# Altium schematic symbol library VC099_V13_20211125_Library.SchLib: 284 symbols (part 1 of 28)
Pins are listed as number, name and electrical type; pins without a type are passive.

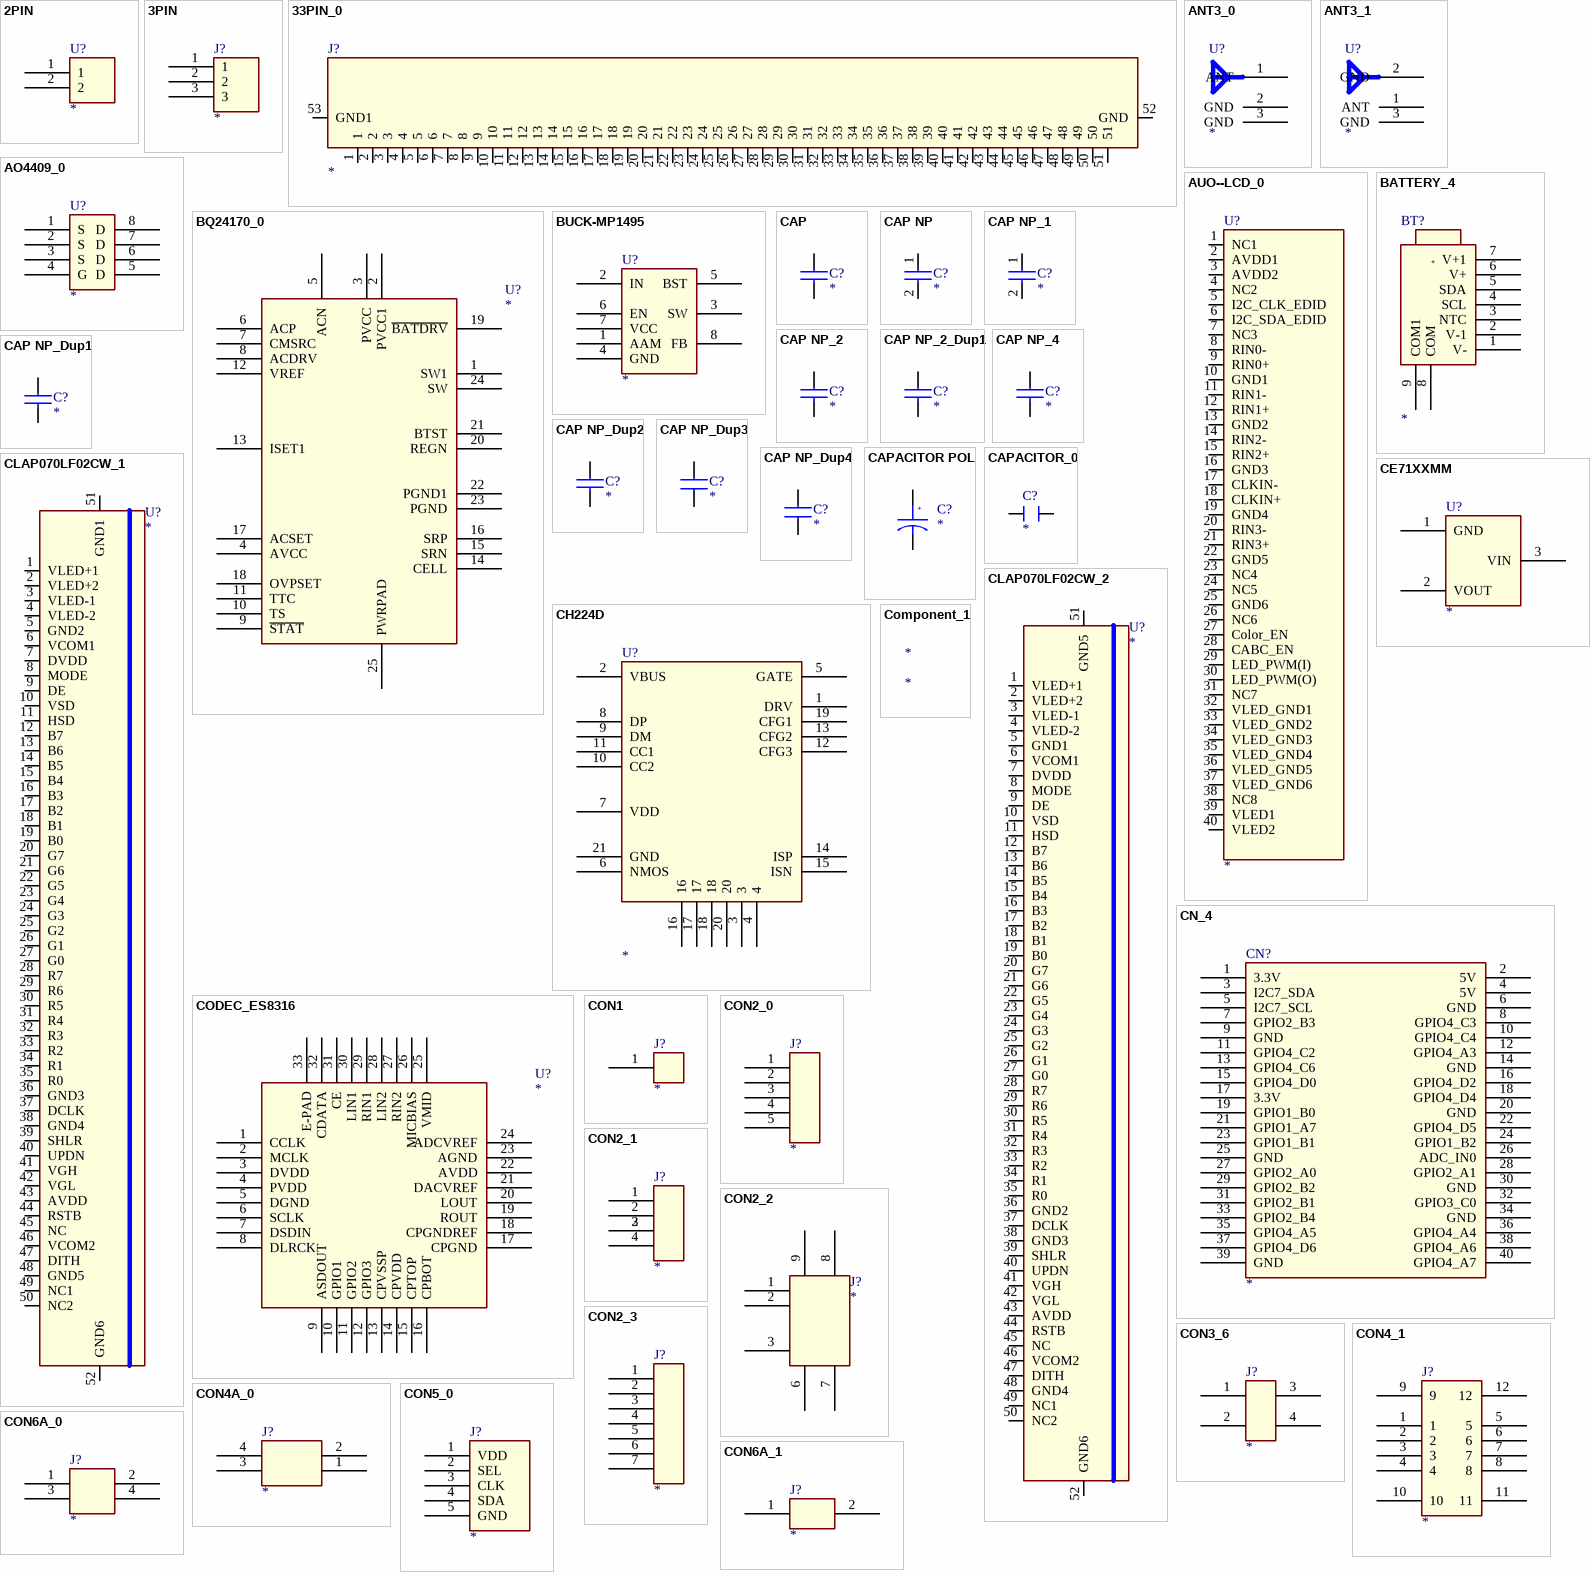
[diagram p0: symbols 2PIN to CON6A_1]

## 2PIN
designator U?
footprint 2PIN_2_54
pins: 1, 2

## 3PIN
designator J?
footprint 3PIN
pins: 1, 2, 3

## 33PIN_0
designator J?
footprint 33PIN
pins: 1, 2, 3, 4, 5, 6, 7, 8, 9, 10, 11, 12, 13, 14, 15, 16, 17, 18, 19, 20, 21, 22, 23, 24, 25, 26, 27, 28, 29, 30, 31, 32, 33, 34, 35, 36, 37, 38, 39, 40, 41, 42, 43, 44, 45, 46, 47, 48, 49, 50, 51, 52 GND, 53 GND1

## ANT3_0
designator U?
pins: 1 ANT, 2 GND, 3 GND

## ANT3_1
designator U?
pins: 1 ANT, 2 GND, 3 GND

## AO4409_0
designator U?
pins: 1 S, 2 S, 3 S, 4 G, 5 D, 6 D, 7 D, 8 D

## AUO--LCD_0
designator U?
pins: 1 NC1, 2 AVDD1, 3 AVDD2, 4 NC2, 5 I2C_CLK_EDID, 6 I2C_SDA_EDID, 7 NC3, 8 RIN0-, 9 RIN0+, 10 GND1, 11 RIN1-, 12 RIN1+, 13 GND2, 14 RIN2-, 15 RIN2+, 16 GND3, 17 CLKIN-, 18 CLKIN+, 19 GND4, 20 RIN3-, 21 RIN3+, 22 GND5, 23 NC4, 24 NC5, 25 GND6, 26 NC6, 27 Color_EN, 28 CABC_EN, 29 LED_PWM(I), 30 LED_PWM(O), 31 NC7, 32 VLED_GND1, 33 VLED_GND2, 34 VLED_GND3, 35 VLED_GND4, 36 VLED_GND5, 37 VLED_GND6, 38 NC8, 39 VLED1, 40 VLED2

## BATTERY_4
designator BT?
pins: 1 V- (power), 2 V-1 (power), 3 NTC, 4 SCL, 5 SDA, 6 V+ (power), 7 V+1 (power), 8 COM, 9 COM1
text: +; -

## BQ24170_0
designator U?
footprint BQ24170
pins: 1 SW1, 2 PVCC1, 3 PVCC, 4 AVCC, 5 ACN, 6 ACP, 7 CMSRC, 8 ACDRV, 9 ~{STAT}, 10 TS, 11 TTC, 12 VREF, 13 ISET1, 14 CELL, 15 SRN, 16 SRP, 17 ACSET, 18 OVPSET, 19 ~{BATDRV}, 20 REGN, 21 BTST, 22 PGND1, 23 PGND, 24 SW, 25 PWRPAD

## BUCK-MP1495
designator U?
footprint TSOT_23_8
pins: 1 AAM, 2 IN, 3 SW, 4 GND, 5 BST, 6 EN, 7 VCC, 8 FB

## CAP
designator C?
pins: 1, 2

## CAP NP
designator C?
pins: 1, 2

## CAP NP_1
designator C?
pins: 1, 2

## CAP NP_2
designator C?
pins: 1, 2

## CAP NP_2_Dup1
designator C?
pins: 1, 2

## CAP NP_4
designator C?
pins: 1, 2

## CAP NP_Dup1
designator C?
footprint C0402
pins: 1, 2

## CAP NP_Dup2
designator C?
pins: 1, 2

## CAP NP_Dup3
designator C?
footprint C0603
pins: 1, 2

## CAP NP_Dup4
designator C?
footprint C0603
pins: 1, 2

## CAPACITOR POL
designator C?
pins: 1, 2
text: +

## CAPACITOR_0
designator C?
pins: 1, 2

## CE71XXMM
designator U?
pins: 1 GND, 2 VOUT, 3 VIN

## CH224D
designator U?
footprint CH224D
pins: 1 DRV, 2 VBUS, 3, 4, 5 GATE, 6 NMOS, 7 VDD, 8 DP, 9 DM, 10 CC2, 11 CC1, 12 CFG3, 13 CFG2, 14 ISP, 15 ISN, 16, 17, 18, 19 CFG1, 20, 21 GND

## CLAP070LF02CW_1
designator U?
pins: 1 VLED+1, 2 VLED+2, 3 VLED-1, 4 VLED-2, 5 GND2, 6 VCOM1, 7 DVDD, 8 MODE, 9 DE, 10 VSD, 11 HSD, 12 B7, 13 B6, 14 B5, 15 B4, 16 B3, 17 B2, 18 B1, 19 B0, 20 G7, 21 G6, 22 G5, 23 G4, 24 G3, 25 G2, 26 G1, 27 G0, 28 R7, 29 R6, 30 R5, 31 R4, 32 R3, 33 R2, 34 R1, 35 R0, 36 GND3, 37 DCLK, 38 GND4, 39 SHLR, 40 UPDN, 41 VGH, 42 VGL, 43 AVDD, 44 RSTB, 45 NC, 46 VCOM2, 47 DITH, 48 GND5, 49 NC1, 50 NC2, 51 GND1, 52 GND6

## CLAP070LF02CW_2
designator U?
pins: 1 VLED+1, 2 VLED+2, 3 VLED-1, 4 VLED-2, 5 GND1, 6 VCOM1, 7 DVDD, 8 MODE, 9 DE, 10 VSD, 11 HSD, 12 B7, 13 B6, 14 B5, 15 B4, 16 B3, 17 B2, 18 B1, 19 B0, 20 G7, 21 G6, 22 G5, 23 G4, 24 G3, 25 G2, 26 G1, 27 G0, 28 R7, 29 R6, 30 R5, 31 R4, 32 R3, 33 R2, 34 R1, 35 R0, 36 GND2, 37 DCLK, 38 GND3, 39 SHLR, 40 UPDN, 41 VGH, 42 VGL, 43 AVDD, 44 RSTB, 45 NC, 46 VCOM2, 47 DITH, 48 GND4, 49 NC1, 50 NC2, 51 GND5, 52 GND6

## CN_4
designator CN?
pins: 1 3.3V, 2 5V, 3 I2C7_SDA, 4 5V, 5 I2C7_SCL, 6 GND, 7 GPIO2_B3, 8 GPIO4_C3, 9 GND, 10 GPIO4_C4, 11 GPIO4_C2, 12 GPIO4_A3, 13 GPIO4_C6, 14 GND, 15 GPIO4_D0, 16 GPIO4_D2, 17 3.3V, 18 GPIO4_D4, 19 GPIO1_B0, 20 GND, 21 GPIO1_A7, 22 GPIO4_D5, 23 GPIO1_B1, 24 GPIO1_B2, 25 GND, 26 ADC_IN0, 27 GPIO2_A0, 28 GPIO2_A1, 29 GPIO2_B2, 30 GND, 31 GPIO2_B1, 32 GPIO3_C0, 33 GPIO2_B4, 34 GND, 35 GPIO4_A5, 36 GPIO4_A4, 37 GPIO4_D6, 38 GPIO4_A6, 39 GND, 40 GPIO4_A7

## CODEC_ES8316
designator U?
pins: 1 CCLK, 2 MCLK, 3 DVDD, 4 PVDD, 5 DGND, 6 SCLK, 7 DSDIN, 8 DLRCK, 9 ASDOUT, 10 GPIO1, 11 GPIO2, 12 GPIO3, 13 CPVSSP, 14 CPVDD, 15 CPTOP, 16 CPBOT, 17 CPGND, 18 CPGNDREF, 19 ROUT, 20 LOUT, 21 DACVREF, 22 AVDD, 23 AGND, 24 ADCVREF, 25 VMID, 26 MICBIAS, 27 RIN2, 28 LIN2, 29 RIN1, 30 LIN1, 31 CE, 32 CDATA, 33 E-PAD

## Component_1
designator *

## CON1
designator J?
pins: 1

## CON2_0
designator J?
pins: 1, 2, 3, 4, 5

## CON2_1
designator J?
pins: 1, 2, 2, 3, 4

## CON2_2
designator J?
pins: 1, 2, 3, 6, 7, 8, 9

## CON2_3
designator J?
pins: 1, 2, 3, 4, 5, 6, 7

## CON3_6
designator J?
pins: 1, 2, 3, 4

## CON4_1
designator J?
pins: 1, 2, 3, 4, 5, 6, 7, 8, 9, 10, 11, 12

## CON4A_0
designator J?
pins: 1, 2, 3, 4

## CON5_0
designator J?
pins: 1 VDD, 2 SEL, 3 CLK, 4 SDA, 5 GND

## CON6A_0
designator J?
pins: 1, 2, 3, 4

## CON6A_1
designator J?
pins: 1, 2

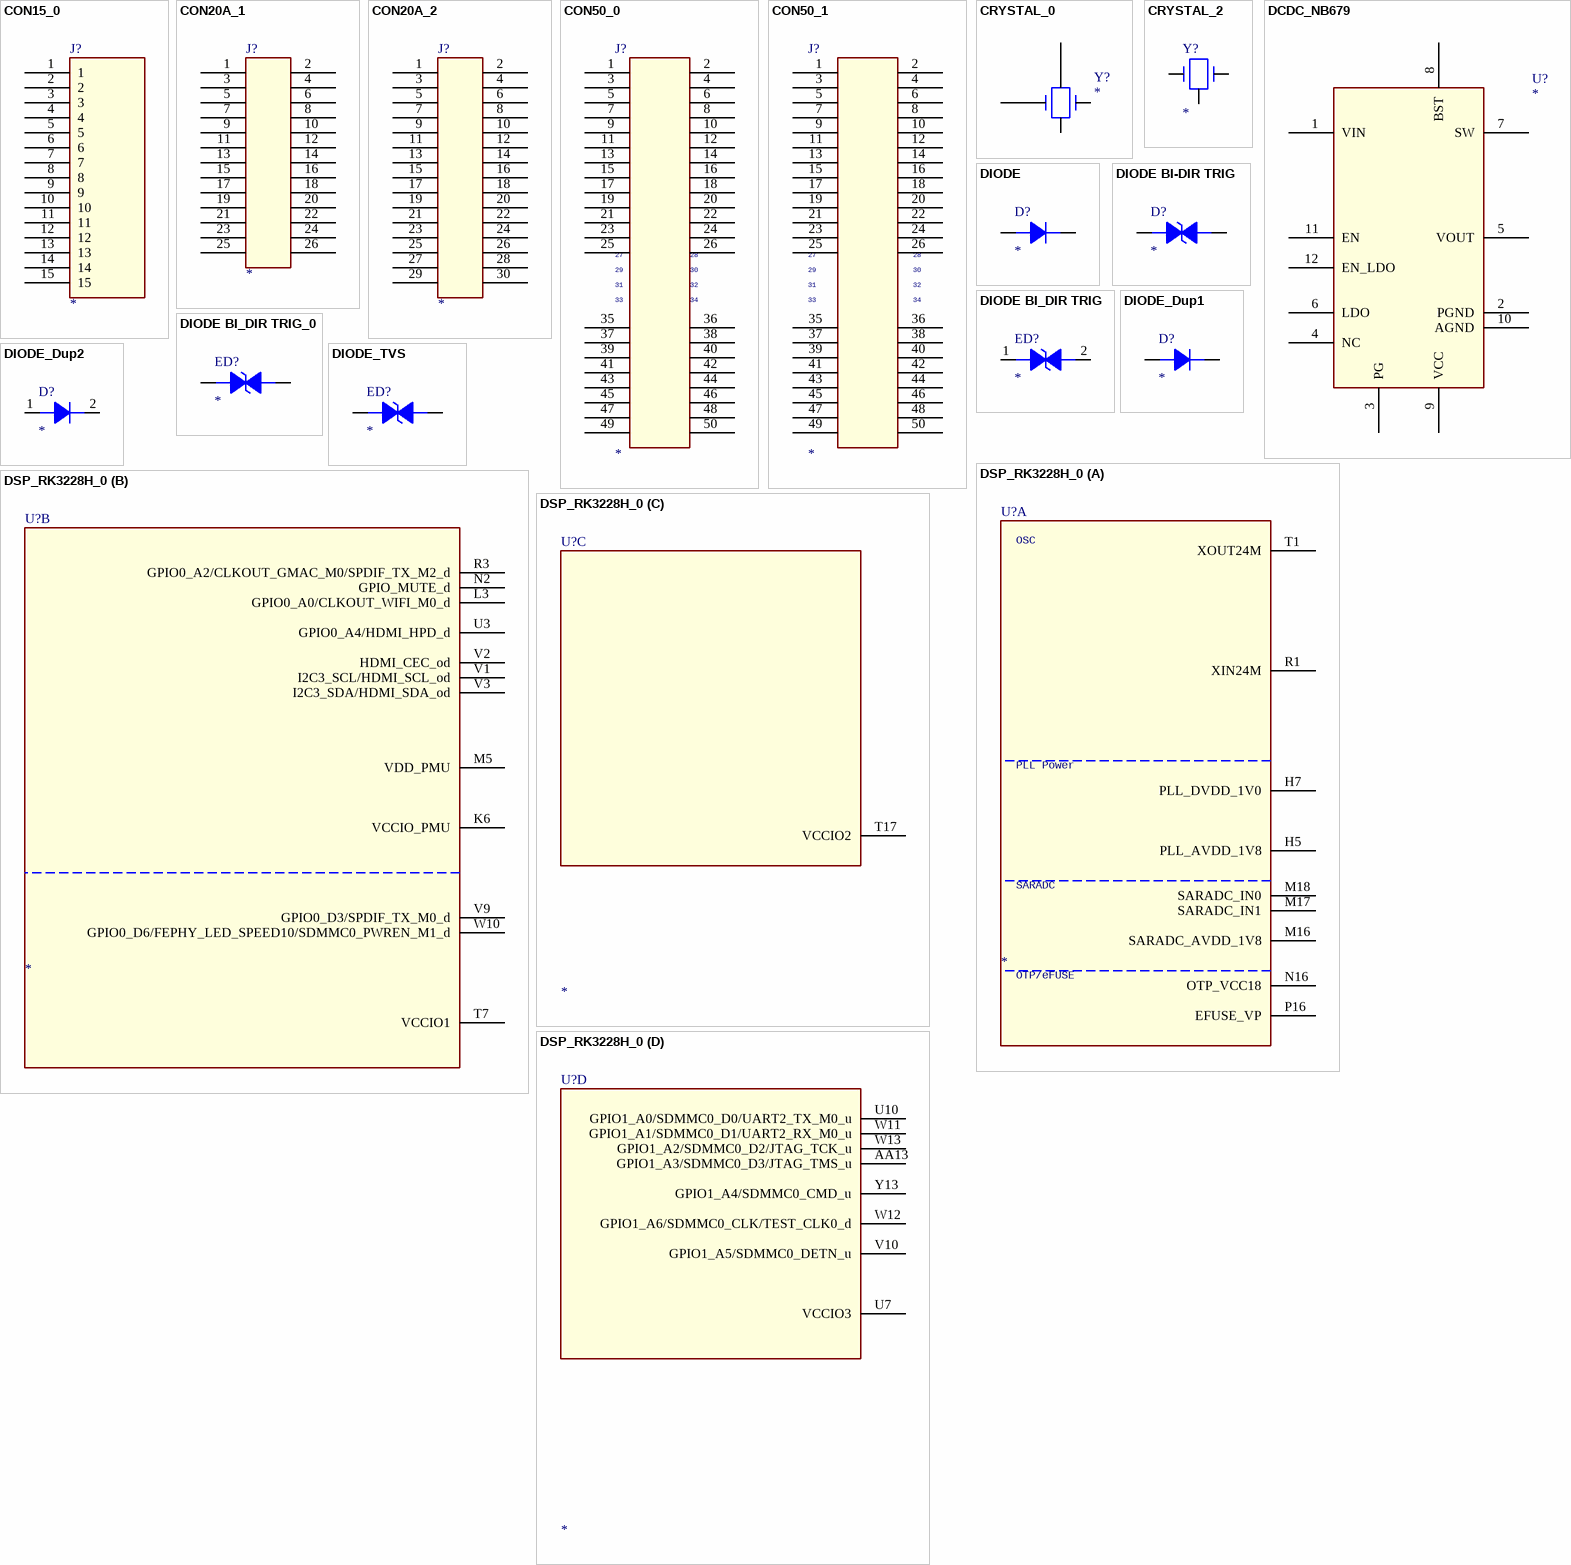
[diagram p1: symbols CON15_0 to DSP_RK3228H_0]

## CON15_0
designator J?
pins: 1, 2, 3, 4, 5, 6, 7, 8, 9, 10, 11, 12, 13, 14, 15

## CON20A_1
designator J?
pins: 1, 2, 3, 4, 5, 6, 7, 8, 9, 10, 11, 12, 13, 14, 15, 16, 17, 18, 19, 20, 21, 22, 23, 24, 25, 26

## CON20A_2
designator J?
pins: 1, 2, 3, 4, 5, 6, 7, 8, 9, 10, 11, 12, 13, 14, 15, 16, 17, 18, 19, 20, 21, 22, 23, 24, 25, 26, 27, 28, 29, 30

## CON50_0
designator J?
pins: 1, 2, 3, 4, 5, 6, 7, 8, 9, 10, 11, 12, 13, 14, 15, 16, 17, 18, 19, 20, 21, 22, 23, 24, 25, 26, 35, 36, 37, 38, 39, 40, 41, 42, 43, 44, 45, 46, 47, 48, 49, 50
text: 27; 28; 29; 30; 31; 32; 33; 34

## CON50_1
designator J?
pins: 1, 2, 3, 4, 5, 6, 7, 8, 9, 10, 11, 12, 13, 14, 15, 16, 17, 18, 19, 20, 21, 22, 23, 24, 25, 26, 35, 36, 37, 38, 39, 40, 41, 42, 43, 44, 45, 46, 47, 48, 49, 50
text: 27; 28; 29; 30; 31; 32; 33; 34

## CRYSTAL_0
designator Y?
pins: 1, 2, 3, 4

## CRYSTAL_2
designator Y?
pins: 1, 2, 3, 4

## DCDC_NB679
designator U?
footprint QFN12_3R00X2R00X0R90
pins: 1 VIN, 2 PGND, 3 PG, 4 NC, 5 VOUT, 6 LDO, 7 SW, 8 BST, 9 VCC, 10 AGND, 11 EN, 12 EN_LDO

## DIODE
designator D?
pins: 1 A, 2 K

## DIODE BI-DIR TRIG
designator D?
pins: 1, 2

## DIODE BI_DIR TRIG
designator ED?
pins: 1, 2

## DIODE BI_DIR TRIG_0
designator ED?
pins: 1, 2

## DIODE_Dup1
designator D?
pins: 1 A, 2 K

## DIODE_Dup2
designator D?
pins: 1 A, 2 K

## DIODE_TVS
designator ED?
footprint E0402
pins: 1, 2

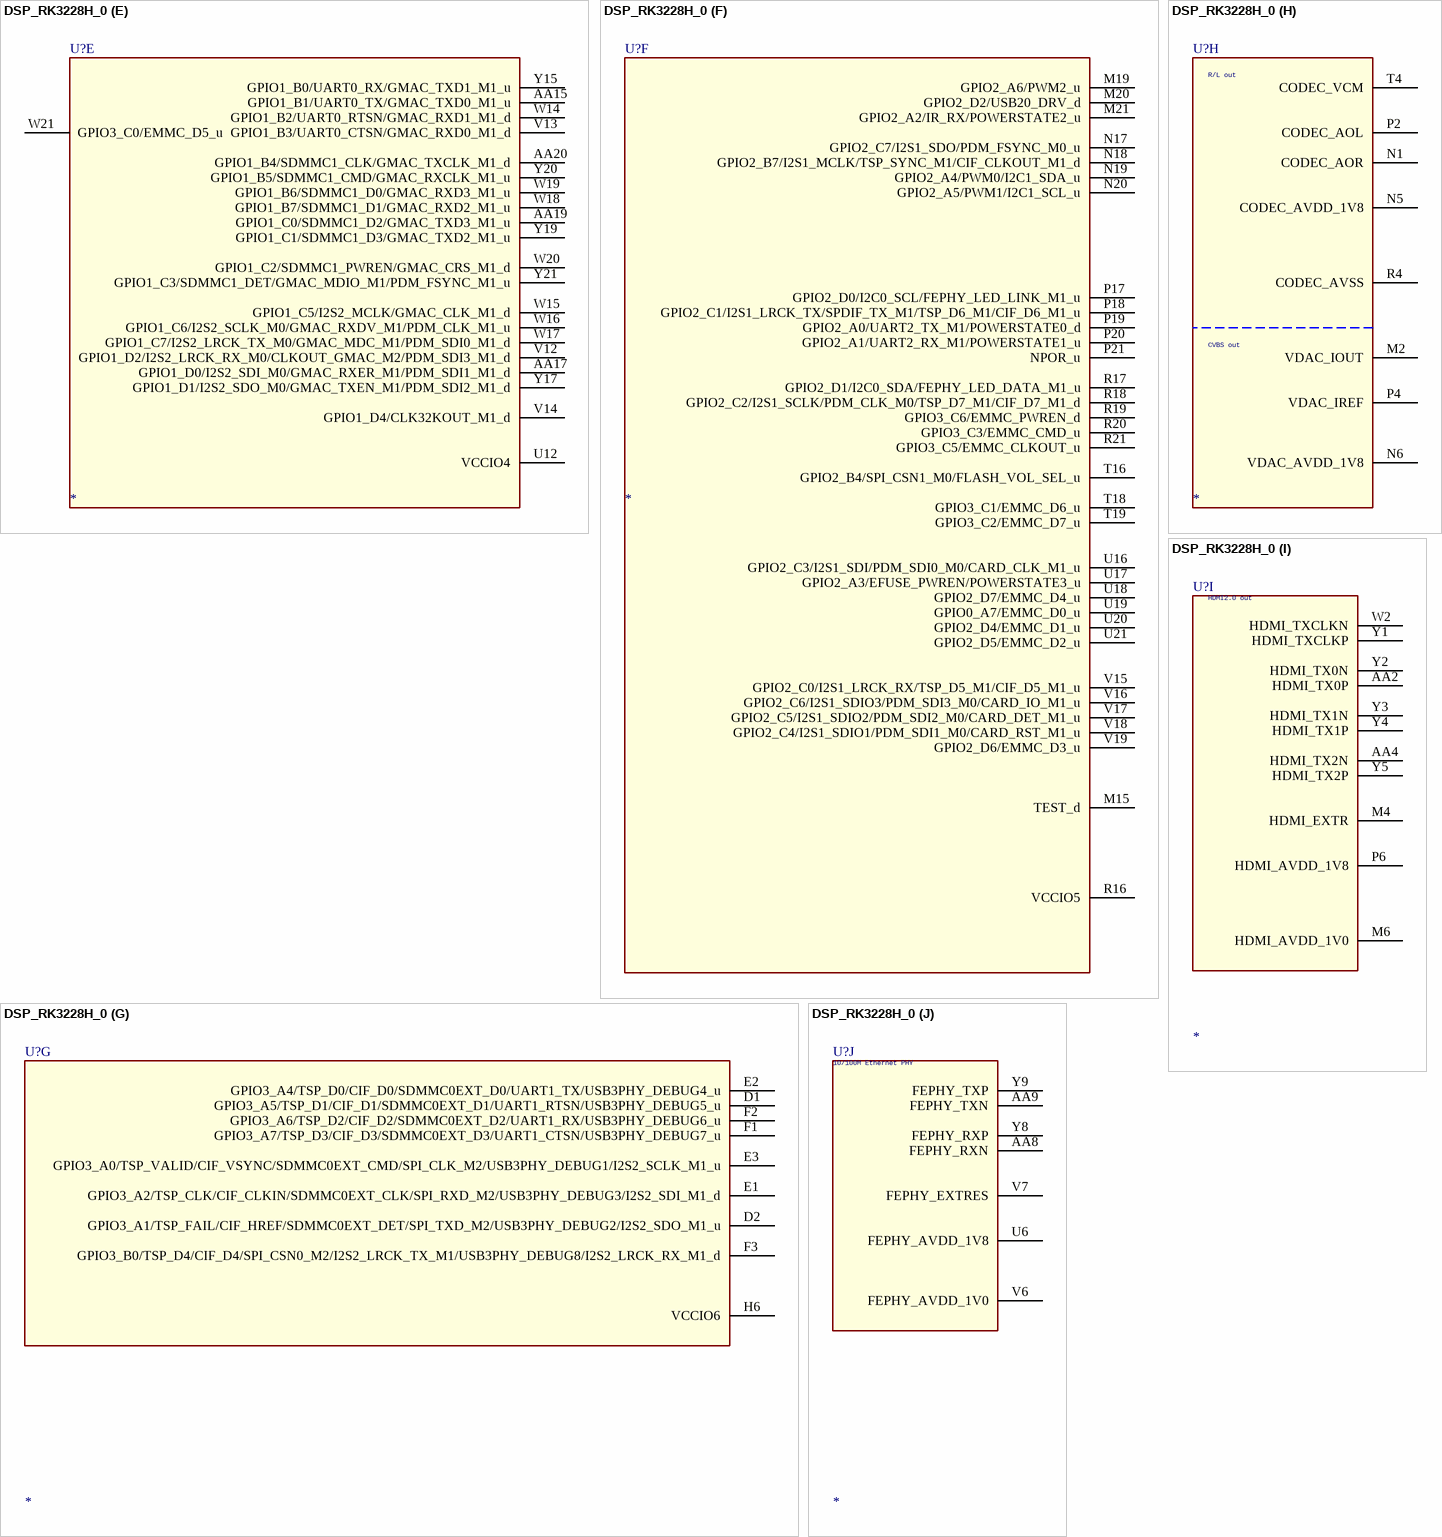
[diagram p2: symbol DSP_RK3228H_0]

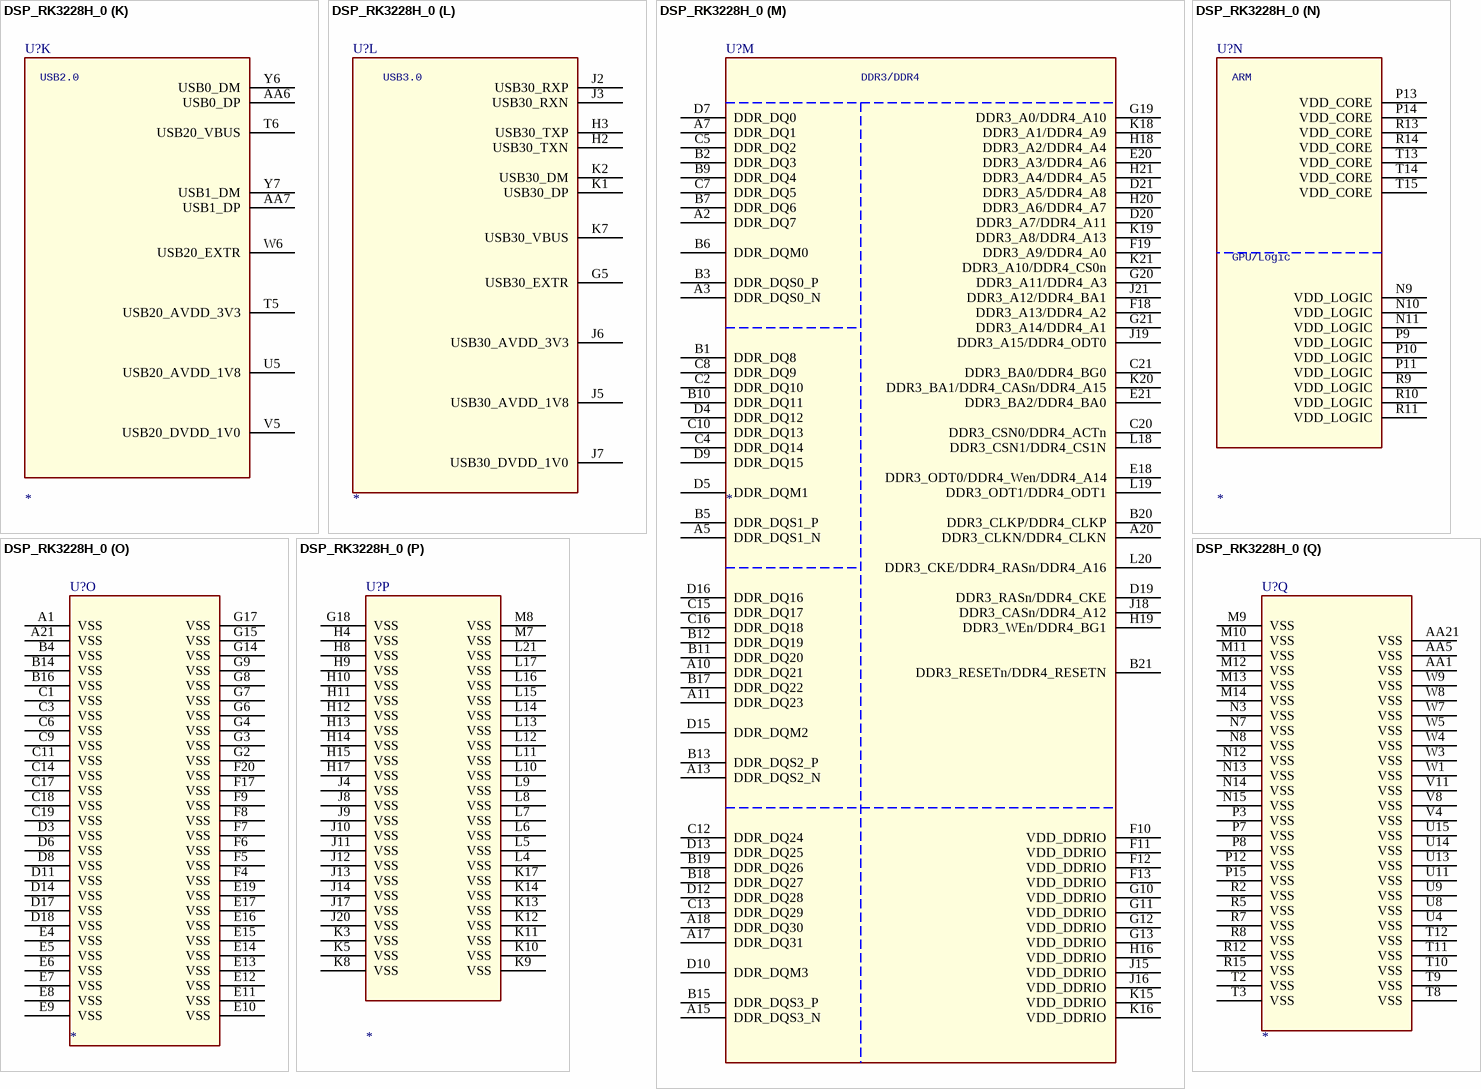
[diagram p3: symbol DSP_RK3228H_0]

## DSP_RK3228H_0
designator U?
footprint RK3228H_21X21
part A pins: H5 PLL_AVDD_1V8, H7 PLL_DVDD_1V0, M16 SARADC_AVDD_1V8, M17 SARADC_IN1, M18 SARADC_IN0, N16 OTP_VCC18, P16 EFUSE_VP, R1 XIN24M, T1 XOUT24M
part B pins: K6 VCCIO_PMU, L3 GPIO0_A0/CLKOUT_WIFI_M0_d, M5 VDD_PMU, N2 GPIO_MUTE_d, R3 GPIO0_A2/CLKOUT_GMAC_M0/SPDIF_TX_M2_d, T7 VCCIO1, U3 GPIO0_A4/HDMI_HPD_d, V1 I2C3_SCL/HDMI_SCL_od, V2 HDMI_CEC_od, V3 I2C3_SDA/HDMI_SDA_od, V9 GPIO0_D3/SPDIF_TX_M0_d, W10 GPIO0_D6/FEPHY_LED_SPEED10/SDMMC0_PWREN_M1_d
part C pins: T17 VCCIO2
part D pins: AA13 GPIO1_A3/SDMMC0_D3/JTAG_TMS_u, U7 VCCIO3, U10 GPIO1_A0/SDMMC0_D0/UART2_TX_M0_u, V10 GPIO1_A5/SDMMC0_DETN_u, W11 GPIO1_A1/SDMMC0_D1/UART2_RX_M0_u, W12 GPIO1_A6/SDMMC0_CLK/TEST_CLK0_d, W13 GPIO1_A2/SDMMC0_D2/JTAG_TCK_u, Y13 GPIO1_A4/SDMMC0_CMD_u
part E pins: AA15 GPIO1_B1/UART0_TX/GMAC_TXD0_M1_u, AA17 GPIO1_D0/I2S2_SDI_M0/GMAC_RXER_M1/PDM_SDI1_M1_d, AA19 GPIO1_C0/SDMMC1_D2/GMAC_TXD3_M1_u, AA20 GPIO1_B4/SDMMC1_CLK/GMAC_TXCLK_M1_d, U12 VCCIO4, V12 GPIO1_D2/I2S2_LRCK_RX_M0/CLKOUT_GMAC_M2/PDM_SDI3_M1_d, V13 GPIO1_B3/UART0_CTSN/GMAC_RXD0_M1_d, V14 GPIO1_D4/CLK32KOUT_M1_d, W14 GPIO1_B2/UART0_RTSN/GMAC_RXD1_M1_d, W15 GPIO1_C5/I2S2_MCLK/GMAC_CLK_M1_d, W16 GPIO1_C6/I2S2_SCLK_M0/GMAC_RXDV_M1/PDM_CLK_M1_u, W17 GPIO1_C7/I2S2_LRCK_TX_M0/GMAC_MDC_M1/PDM_SDI0_M1_d, W18 GPIO1_B7/SDMMC1_D1/GMAC_RXD2_M1_u, W19 GPIO1_B6/SDMMC1_D0/GMAC_RXD3_M1_u, W20 GPIO1_C2/SDMMC1_PWREN/GMAC_CRS_M1_d, W21 GPIO3_C0/EMMC_D5_u, Y15 GPIO1_B0/UART0_RX/GMAC_TXD1_M1_u, Y17 GPIO1_D1/I2S2_SDO_M0/GMAC_TXEN_M1/PDM_SDI2_M1_d, Y19 GPIO1_C1/SDMMC1_D3/GMAC_TXD2_M1_u, Y20 GPIO1_B5/SDMMC1_CMD/GMAC_RXCLK_M1_u, Y21 GPIO1_C3/SDMMC1_DET/GMAC_MDIO_M1/PDM_FSYNC_M1_u
part F pins: M15 TEST_d, M19 GPIO2_A6/PWM2_u, M20 GPIO2_D2/USB20_DRV_d, M21 GPIO2_A2/IR_RX/POWERSTATE2_u, N17 GPIO2_C7/I2S1_SDO/PDM_FSYNC_M0_u, N18 GPIO2_B7/I2S1_MCLK/TSP_SYNC_M1/CIF_CLKOUT_M1_d, N19 GPIO2_A4/PWM0/I2C1_SDA_u, N20 GPIO2_A5/PWM1/I2C1_SCL_u, P17 GPIO2_D0/I2C0_SCL/FEPHY_LED_LINK_M1_u, P18 GPIO2_C1/I2S1_LRCK_TX/SPDIF_TX_M1/TSP_D6_M1/CIF_D6_M1_u, P19 GPIO2_A0/UART2_TX_M1/POWERSTATE0_d, P20 GPIO2_A1/UART2_RX_M1/POWERSTATE1_u, P21 NPOR_u, R16 VCCIO5, R17 GPIO2_D1/I2C0_SDA/FEPHY_LED_DATA_M1_u, R18 GPIO2_C2/I2S1_SCLK/PDM_CLK_M0/TSP_D7_M1/CIF_D7_M1_d, R19 GPIO3_C6/EMMC_PWREN_d, R20 GPIO3_C3/EMMC_CMD_u, R21 GPIO3_C5/EMMC_CLKOUT_u, T16 GPIO2_B4/SPI_CSN1_M0/FLASH_VOL_SEL_u, T18 GPIO3_C1/EMMC_D6_u, T19 GPIO3_C2/EMMC_D7_u, U16 GPIO2_C3/I2S1_SDI/PDM_SDI0_M0/CARD_CLK_M1_u, U17 GPIO2_A3/EFUSE_PWREN/POWERSTATE3_u, U18 GPIO2_D7/EMMC_D4_u, U19 GPIO0_A7/EMMC_D0_u, U20 GPIO2_D4/EMMC_D1_u, U21 GPIO2_D5/EMMC_D2_u, V15 GPIO2_C0/I2S1_LRCK_RX/TSP_D5_M1/CIF_D5_M1_u, V16 GPIO2_C6/I2S1_SDIO3/PDM_SDI3_M0/CARD_IO_M1_u, V17 GPIO2_C5/I2S1_SDIO2/PDM_SDI2_M0/CARD_DET_M1_u, V18 GPIO2_C4/I2S1_SDIO1/PDM_SDI1_M0/CARD_RST_M1_u, V19 GPIO2_D6/EMMC_D3_u
part G pins: D1 GPIO3_A5/TSP_D1/CIF_D1/SDMMC0EXT_D1/UART1_RTSN/USB3PHY_DEBUG5_u, D2 GPIO3_A1/TSP_FAIL/CIF_HREF/SDMMC0EXT_DET/SPI_TXD_M2/USB3PHY_DEBUG2/I2S2_SDO_M1_u, E1 GPIO3_A2/TSP_CLK/CIF_CLKIN/SDMMC0EXT_CLK/SPI_RXD_M2/USB3PHY_DEBUG3/I2S2_SDI_M1_d, E2 GPIO3_A4/TSP_D0/CIF_D0/SDMMC0EXT_D0/UART1_TX/USB3PHY_DEBUG4_u, E3 GPIO3_A0/TSP_VALID/CIF_VSYNC/SDMMC0EXT_CMD/SPI_CLK_M2/USB3PHY_DEBUG1/I2S2_SCLK_M1_u, F1 GPIO3_A7/TSP_D3/CIF_D3/SDMMC0EXT_D3/UART1_CTSN/USB3PHY_DEBUG7_u, F2 GPIO3_A6/TSP_D2/CIF_D2/SDMMC0EXT_D2/UART1_RX/USB3PHY_DEBUG6_u, F3 GPIO3_B0/TSP_D4/CIF_D4/SPI_CSN0_M2/I2S2_LRCK_TX_M1/USB3PHY_DEBUG8/I2S2_LRCK_RX_M1_d, H6 VCCIO6
part H pins: M2 VDAC_IOUT, N1 CODEC_AOR, N5 CODEC_AVDD_1V8, N6 VDAC_AVDD_1V8, P2 CODEC_AOL, P4 VDAC_IREF, R4 CODEC_AVSS, T4 CODEC_VCM
part I pins: AA2 HDMI_TX0P, AA4 HDMI_TX2N, M4 HDMI_EXTR, M6 HDMI_AVDD_1V0, P6 HDMI_AVDD_1V8, W2 HDMI_TXCLKN, Y1 HDMI_TXCLKP, Y2 HDMI_TX0N, Y3 HDMI_TX1N, Y4 HDMI_TX1P, Y5 HDMI_TX2P
part J pins: AA8 FEPHY_RXN, AA9 FEPHY_TXN, U6 FEPHY_AVDD_1V8, V6 FEPHY_AVDD_1V0, V7 FEPHY_EXTRES, Y8 FEPHY_RXP, Y9 FEPHY_TXP
part K pins: AA6 USB0_DP, AA7 USB1_DP, T5 USB20_AVDD_3V3, T6 USB20_VBUS, U5 USB20_AVDD_1V8, V5 USB20_DVDD_1V0, W6 USB20_EXTR, Y6 USB0_DM, Y7 USB1_DM
part L pins: G5 USB30_EXTR, H2 USB30_TXN, H3 USB30_TXP, J2 USB30_RXP, J3 USB30_RXN, J5 USB30_AVDD_1V8, J6 USB30_AVDD_3V3, J7 USB30_DVDD_1V0, K1 USB30_DP, K2 USB30_DM, K7 USB30_VBUS
part M pins: A2 DDR_DQ7, A3 DDR_DQS0_N, A5 DDR_DQS1_N, A7 DDR_DQ1, A10 DDR_DQ21, A11 DDR_DQ23, A13 DDR_DQS2_N, A15 DDR_DQS3_N, A17 DDR_DQ31, A18 DDR_DQ30, A20 DDR3_CLKN/DDR4_CLKN, B1 DDR_DQ8, B2 DDR_DQ3, B3 DDR_DQS0_P, B5 DDR_DQS1_P, B6 DDR_DQM0, B7 DDR_DQ6, B9 DDR_DQ4, B10 DDR_DQ11, B11 DDR_DQ20, B12 DDR_DQ19, B13 DDR_DQS2_P, B15 DDR_DQS3_P, B17 DDR_DQ22, B18 DDR_DQ27, B19 DDR_DQ26, B20 DDR3_CLKP/DDR4_CLKP, B21 DDR3_RESETn/DDR4_RESETN, C2 DDR_DQ10, C4 DDR_DQ14, C5 DDR_DQ2, C7 DDR_DQ5, C8 DDR_DQ9, C10 DDR_DQ13, C12 DDR_DQ24, C13 DDR_DQ29, C15 DDR_DQ17, C16 DDR_DQ18, C20 DDR3_CSN0/DDR4_ACTn, C21 DDR3_BA0/DDR4_BG0, D4 DDR_DQ12, D5 DDR_DQM1, D7 DDR_DQ0, D9 DDR_DQ15, D10 DDR_DQM3, D12 DDR_DQ28, D13 DDR_DQ25, D15 DDR_DQM2, D16 DDR_DQ16, D19 DDR3_RASn/DDR4_CKE, D20 DDR3_A7/DDR4_A11, D21 DDR3_A5/DDR4_A8, E18 DDR3_ODT0/DDR4_Wen/DDR4_A14, E20 DDR3_A3/DDR4_A6, E21 DDR3_BA2/DDR4_BA0, F10 VDD_DDRIO (power), F11 VDD_DDRIO (power), F12 VDD_DDRIO (power), F13 VDD_DDRIO (power), F18 DDR3_A13/DDR4_A2, F19 DDR3_A9/DDR4_A0, G10 VDD_DDRIO (power), G11 VDD_DDRIO (power), G12 VDD_DDRIO (power), G13 VDD_DDRIO (power), G19 DDR3_A0/DDR4_A10, G20 DDR3_A11/DDR4_A3, G21 DDR3_A14/DDR4_A1, H16 VDD_DDRIO (power), H18 DDR3_A2/DDR4_A4, H19 DDR3_WEn/DDR4_BG1, H20 DDR3_A6/DDR4_A7, H21 DDR3_A4/DDR4_A5, J15 VDD_DDRIO (power), J16 VDD_DDRIO (power), J18 DDR3_CASn/DDR4_A12, J19 DDR3_A15/DDR4_ODT0, J21 DDR3_A12/DDR4_BA1, K15 VDD_DDRIO (power), K16 VDD_DDRIO (power), K18 DDR3_A1/DDR4_A9, K19 DDR3_A8/DDR4_A13, K20 DDR3_BA1/DDR4_CASn/DDR4_A15, K21 DDR3_A10/DDR4_CS0n, L18 DDR3_CSN1/DDR4_CS1N, L19 DDR3_ODT1/DDR4_ODT1, L20 DDR3_CKE/DDR4_RASn/DDR4_A16
part N pins: N9 VDD_LOGIC (power), N10 VDD_LOGIC (power), N11 VDD_LOGIC (power), P9 VDD_LOGIC (power), P10 VDD_LOGIC (power), P11 VDD_LOGIC (power), P13 VDD_CORE (power), P14 VDD_CORE (power), R9 VDD_LOGIC (power), R10 VDD_LOGIC (power), R11 VDD_LOGIC (power), R13 VDD_CORE (power), R14 VDD_CORE (power), T13 VDD_CORE (power), T14 VDD_CORE (power), T15 VDD_CORE (power)
part O pins: A1 VSS (power), A21 VSS (power), B4 VSS (power), B14 VSS (power), B16 VSS (power), C1 VSS (power), C3 VSS (power), C6 VSS (power), C9 VSS (power), C11 VSS (power), C14 VSS (power), C17 VSS (power), C18 VSS (power), C19 VSS (power), D3 VSS (power), D6 VSS (power), D8 VSS (power), D11 VSS (power), D14 VSS (power), D17 VSS (power), D18 VSS (power), E4 VSS (power), E5 VSS (power), E6 VSS (power), E7 VSS (power), E8 VSS (power), E9 VSS (power), E10 VSS (power), E11 VSS (power), E12 VSS (power), E13 VSS (power), E14 VSS (power), E15 VSS (power), E16 VSS (power), E17 VSS (power), E19 VSS (power), F4 VSS (power), F5 VSS (power), F6 VSS (power), F7 VSS (power), F8 VSS (power), F9 VSS (power), F17 VSS (power), F20 VSS (power), G2 VSS (power), G3 VSS (power), G4 VSS (power), G6 VSS (power), G7 VSS (power), G8 VSS (power), G9 VSS (power), G14 VSS (power), G15 VSS (power), G17 VSS (power)
part P pins: G18 VSS (power), H4 VSS (power), H8 VSS (power), H9 VSS (power), H10 VSS (power), H11 VSS (power), H12 VSS (power), H13 VSS (power), H14 VSS (power), H15 VSS (power), H17 VSS (power), J4 VSS (power), J8 VSS (power), J9 VSS (power), J10 VSS (power), J11 VSS (power), J12 VSS (power), J13 VSS (power), J14 VSS (power), J17 VSS (power), J20 VSS (power), K3 VSS (power), K5 VSS (power), K8 VSS (power), K9 VSS (power), K10 VSS (power), K11 VSS (power), K12 VSS (power), K13 VSS (power), K14 VSS (power), K17 VSS (power), L4 VSS (power), L5 VSS (power), L6 VSS (power), L7 VSS (power), L8 VSS (power), L9 VSS (power), L10 VSS (power), L11 VSS (power), L12 VSS (power), L13 VSS (power), L14 VSS (power), L15 VSS (power), L16 VSS (power), L17 VSS (power), L21 VSS (power), M7 VSS (power), M8 VSS (power)
part Q pins: AA1 VSS (power), AA5 VSS (power), AA21 VSS (power), M9 VSS (power), M10 VSS (power), M11 VSS (power), M12 VSS (power), M13 VSS (power), M14 VSS (power), N3 VSS (power), N7 VSS (power), N8 VSS (power), N12 VSS (power), N13 VSS (power), N14 VSS (power), N15 VSS (power), P3 VSS (power), P7 VSS (power), P8 VSS (power), P12 VSS (power), P15 VSS (power), R2 VSS (power), R5 VSS (power), R7 VSS (power), R8 VSS (power), R12 VSS (power), R15 VSS (power), T2 VSS (power), T3 VSS (power), T8 VSS (power), T9 VSS (power), T10 VSS (power), T11 VSS (power), T12 VSS (power), U4 VSS (power), U8 VSS (power), U9 VSS (power), U11 VSS (power), U13 VSS (power), U14 VSS (power), U15 VSS (power), V4 VSS (power), V8 VSS (power), V11 VSS (power), W1 VSS (power), W3 VSS (power), W4 VSS (power), W5 VSS (power), W7 VSS (power), W8 VSS (power), W9 VSS (power)
part A text: OSC; PLL Power; SARADC; OTP/eFUSE
part H text: R/L out; CVBS out
part I text: HDMI2.0 out
part J text: 10/100M Ethernet PHY
part K text: USB2.0
part L text: USB3.0
part M text: DDR3/DDR4
part N text: ARM; GPU/Logic

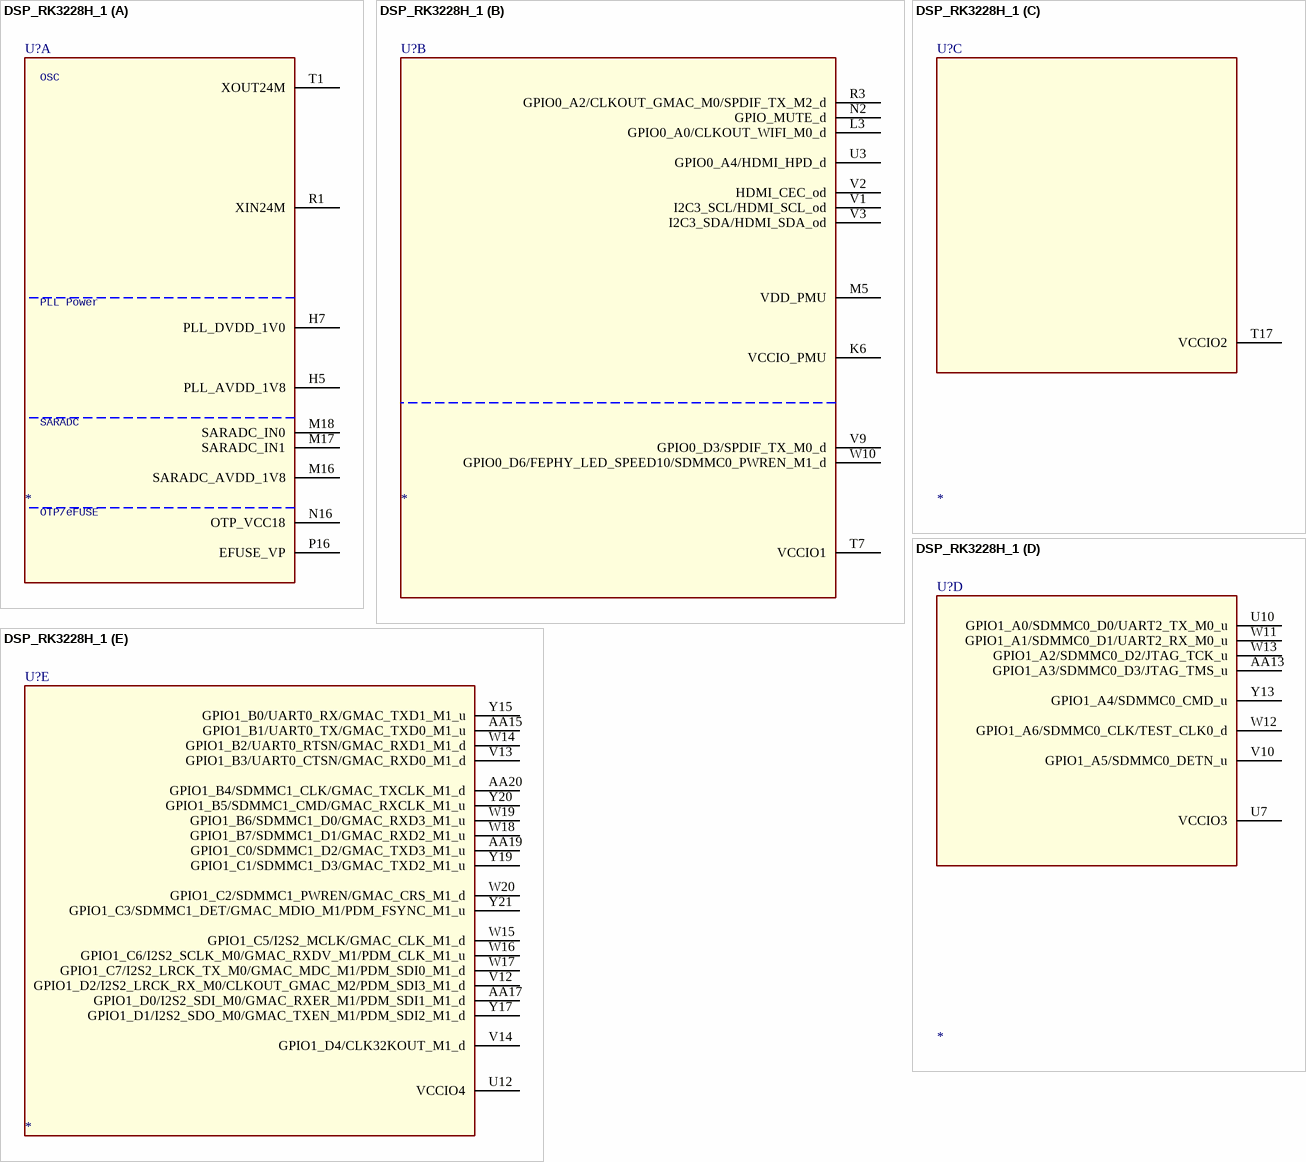
[diagram p4: symbol DSP_RK3228H_1]

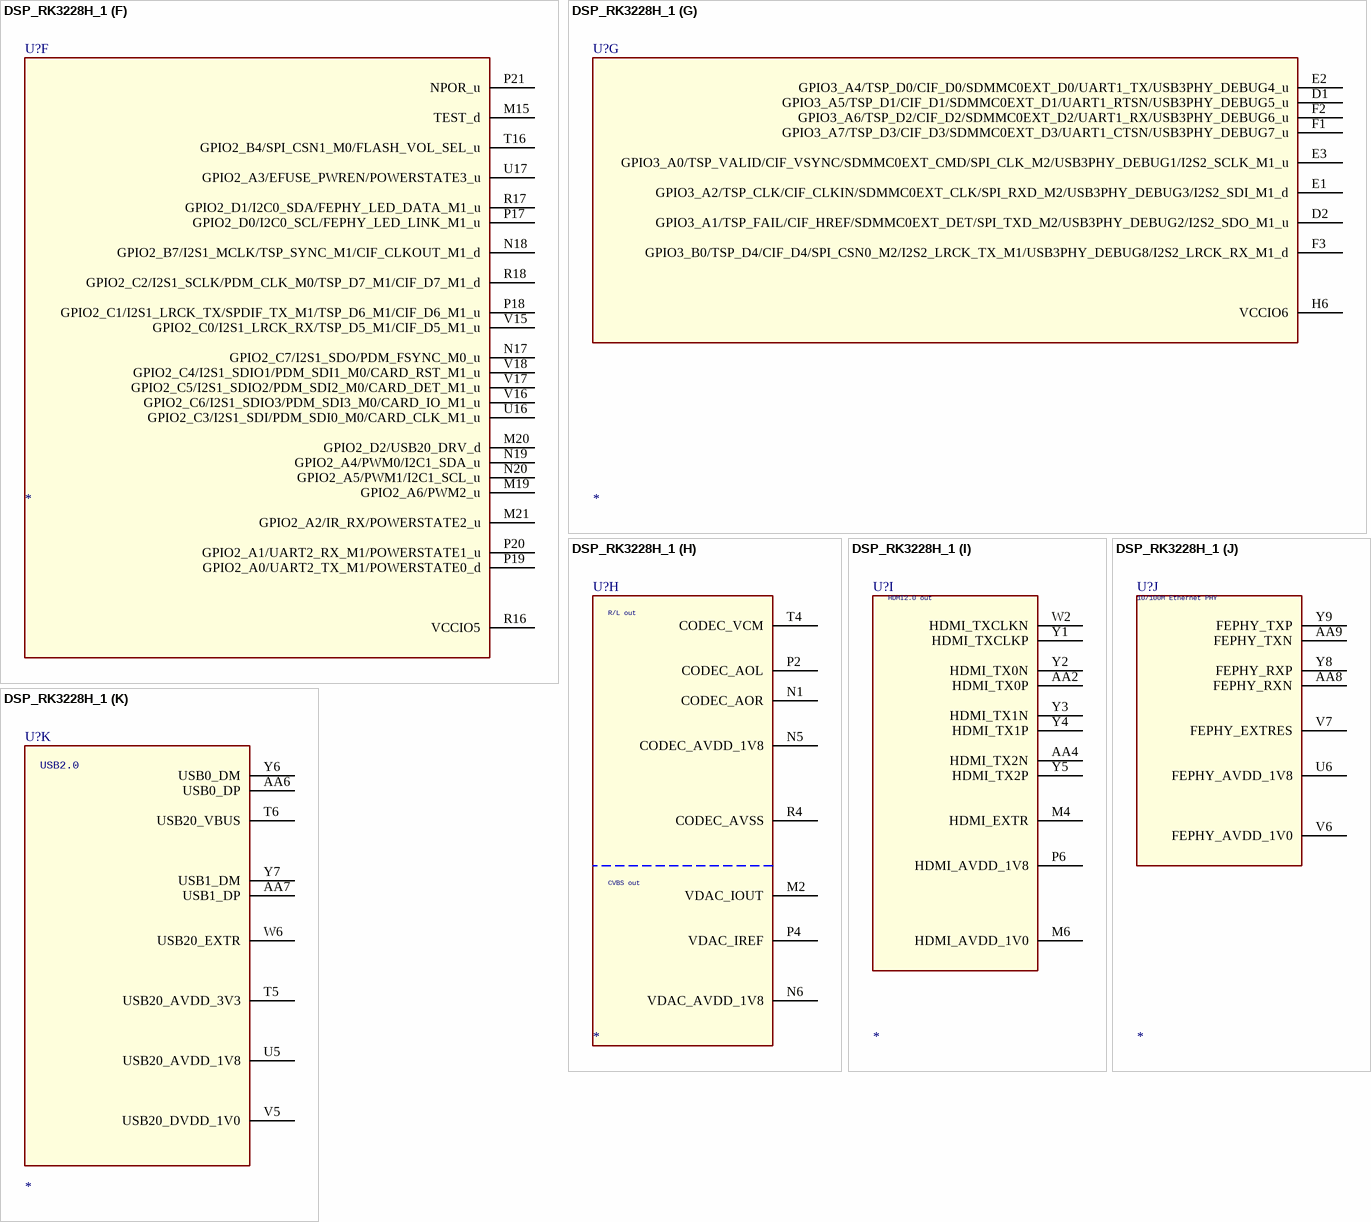
[diagram p5: symbol DSP_RK3228H_1]

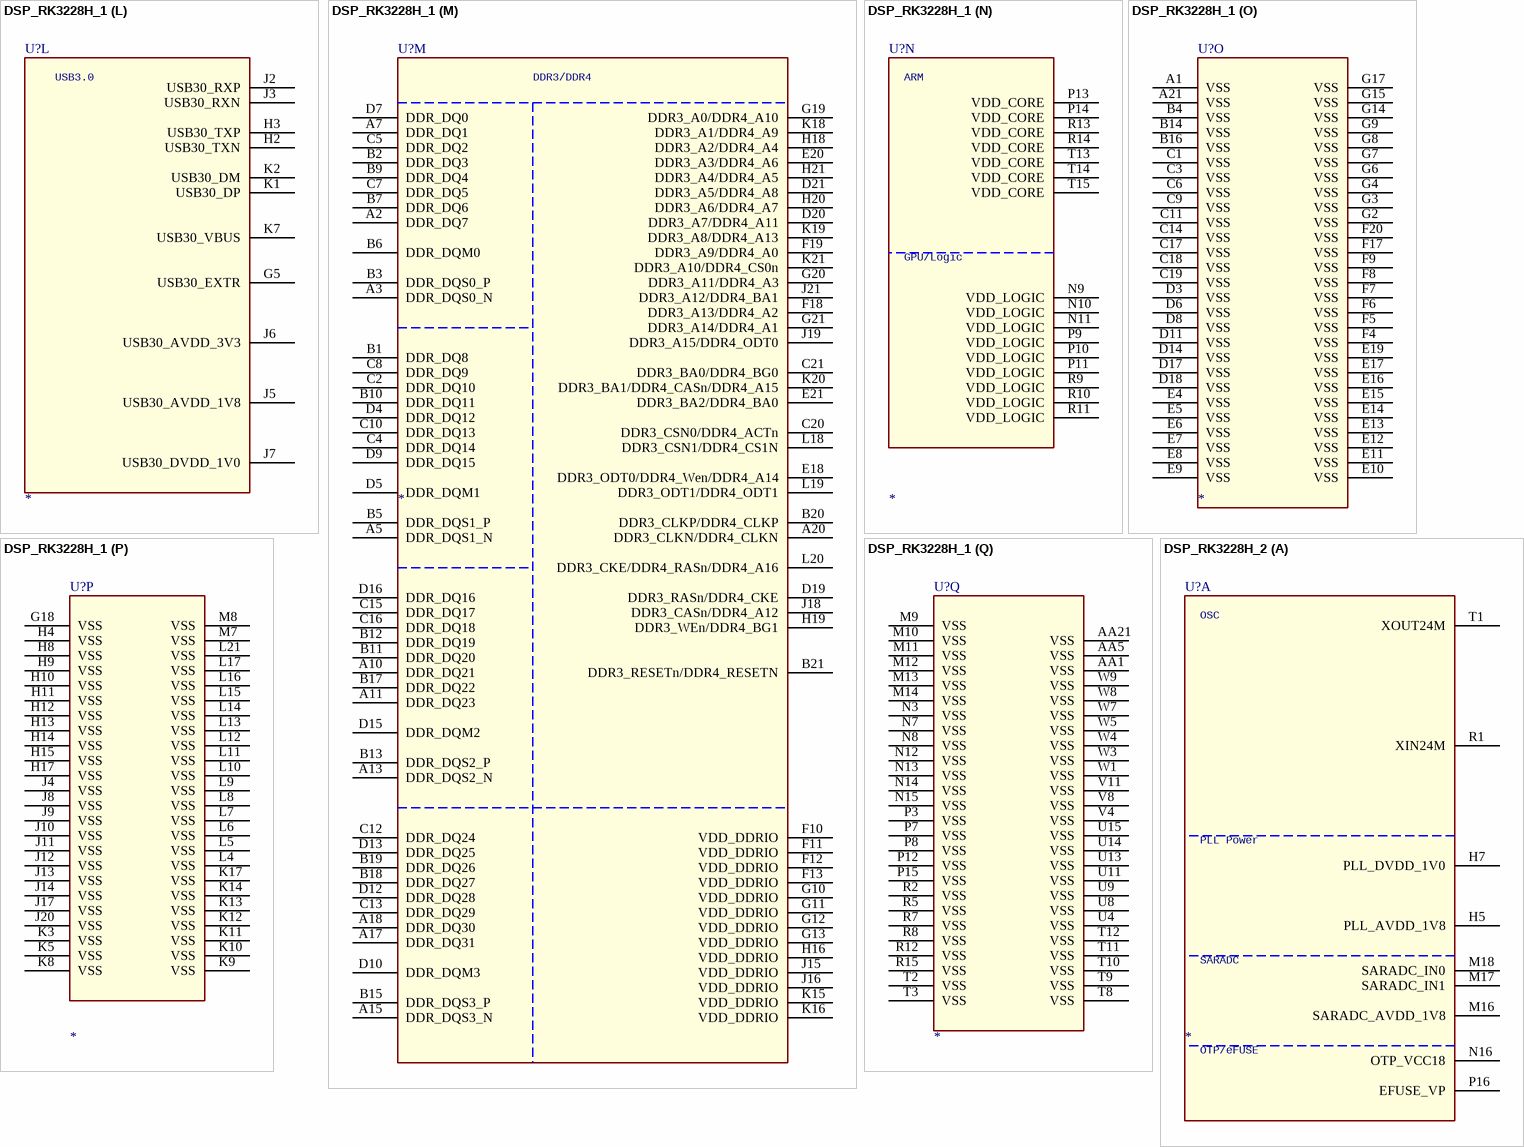
[diagram p6: symbols DSP_RK3228H_1 to DSP_RK3228H_2]

## DSP_RK3228H_1
designator U?
footprint RK3228H_21X21
part A pins: H5 PLL_AVDD_1V8, H7 PLL_DVDD_1V0, M16 SARADC_AVDD_1V8, M17 SARADC_IN1, M18 SARADC_IN0, N16 OTP_VCC18, P16 EFUSE_VP, R1 XIN24M, T1 XOUT24M
part B pins: K6 VCCIO_PMU, L3 GPIO0_A0/CLKOUT_WIFI_M0_d, M5 VDD_PMU, N2 GPIO_MUTE_d, R3 GPIO0_A2/CLKOUT_GMAC_M0/SPDIF_TX_M2_d, T7 VCCIO1, U3 GPIO0_A4/HDMI_HPD_d, V1 I2C3_SCL/HDMI_SCL_od, V2 HDMI_CEC_od, V3 I2C3_SDA/HDMI_SDA_od, V9 GPIO0_D3/SPDIF_TX_M0_d, W10 GPIO0_D6/FEPHY_LED_SPEED10/SDMMC0_PWREN_M1_d
part C pins: T17 VCCIO2
part D pins: AA13 GPIO1_A3/SDMMC0_D3/JTAG_TMS_u, U7 VCCIO3, U10 GPIO1_A0/SDMMC0_D0/UART2_TX_M0_u, V10 GPIO1_A5/SDMMC0_DETN_u, W11 GPIO1_A1/SDMMC0_D1/UART2_RX_M0_u, W12 GPIO1_A6/SDMMC0_CLK/TEST_CLK0_d, W13 GPIO1_A2/SDMMC0_D2/JTAG_TCK_u, Y13 GPIO1_A4/SDMMC0_CMD_u
part E pins: AA15 GPIO1_B1/UART0_TX/GMAC_TXD0_M1_u, AA17 GPIO1_D0/I2S2_SDI_M0/GMAC_RXER_M1/PDM_SDI1_M1_d, AA19 GPIO1_C0/SDMMC1_D2/GMAC_TXD3_M1_u, AA20 GPIO1_B4/SDMMC1_CLK/GMAC_TXCLK_M1_d, U12 VCCIO4, V12 GPIO1_D2/I2S2_LRCK_RX_M0/CLKOUT_GMAC_M2/PDM_SDI3_M1_d, V13 GPIO1_B3/UART0_CTSN/GMAC_RXD0_M1_d, V14 GPIO1_D4/CLK32KOUT_M1_d, W14 GPIO1_B2/UART0_RTSN/GMAC_RXD1_M1_d, W15 GPIO1_C5/I2S2_MCLK/GMAC_CLK_M1_d, W16 GPIO1_C6/I2S2_SCLK_M0/GMAC_RXDV_M1/PDM_CLK_M1_u, W17 GPIO1_C7/I2S2_LRCK_TX_M0/GMAC_MDC_M1/PDM_SDI0_M1_d, W18 GPIO1_B7/SDMMC1_D1/GMAC_RXD2_M1_u, W19 GPIO1_B6/SDMMC1_D0/GMAC_RXD3_M1_u, W20 GPIO1_C2/SDMMC1_PWREN/GMAC_CRS_M1_d, Y15 GPIO1_B0/UART0_RX/GMAC_TXD1_M1_u, Y17 GPIO1_D1/I2S2_SDO_M0/GMAC_TXEN_M1/PDM_SDI2_M1_d, Y19 GPIO1_C1/SDMMC1_D3/GMAC_TXD2_M1_u, Y20 GPIO1_B5/SDMMC1_CMD/GMAC_RXCLK_M1_u, Y21 GPIO1_C3/SDMMC1_DET/GMAC_MDIO_M1/PDM_FSYNC_M1_u
part F pins: M15 TEST_d, M19 GPIO2_A6/PWM2_u, M20 GPIO2_D2/USB20_DRV_d, M21 GPIO2_A2/IR_RX/POWERSTATE2_u, N17 GPIO2_C7/I2S1_SDO/PDM_FSYNC_M0_u, N18 GPIO2_B7/I2S1_MCLK/TSP_SYNC_M1/CIF_CLKOUT_M1_d, N19 GPIO2_A4/PWM0/I2C1_SDA_u, N20 GPIO2_A5/PWM1/I2C1_SCL_u, P17 GPIO2_D0/I2C0_SCL/FEPHY_LED_LINK_M1_u, P18 GPIO2_C1/I2S1_LRCK_TX/SPDIF_TX_M1/TSP_D6_M1/CIF_D6_M1_u, P19 GPIO2_A0/UART2_TX_M1/POWERSTATE0_d, P20 GPIO2_A1/UART2_RX_M1/POWERSTATE1_u, P21 NPOR_u, R16 VCCIO5, R17 GPIO2_D1/I2C0_SDA/FEPHY_LED_DATA_M1_u, R18 GPIO2_C2/I2S1_SCLK/PDM_CLK_M0/TSP_D7_M1/CIF_D7_M1_d, T16 GPIO2_B4/SPI_CSN1_M0/FLASH_VOL_SEL_u, U16 GPIO2_C3/I2S1_SDI/PDM_SDI0_M0/CARD_CLK_M1_u, U17 GPIO2_A3/EFUSE_PWREN/POWERSTATE3_u, V15 GPIO2_C0/I2S1_LRCK_RX/TSP_D5_M1/CIF_D5_M1_u, V16 GPIO2_C6/I2S1_SDIO3/PDM_SDI3_M0/CARD_IO_M1_u, V17 GPIO2_C5/I2S1_SDIO2/PDM_SDI2_M0/CARD_DET_M1_u, V18 GPIO2_C4/I2S1_SDIO1/PDM_SDI1_M0/CARD_RST_M1_u
part G pins: D1 GPIO3_A5/TSP_D1/CIF_D1/SDMMC0EXT_D1/UART1_RTSN/USB3PHY_DEBUG5_u, D2 GPIO3_A1/TSP_FAIL/CIF_HREF/SDMMC0EXT_DET/SPI_TXD_M2/USB3PHY_DEBUG2/I2S2_SDO_M1_u, E1 GPIO3_A2/TSP_CLK/CIF_CLKIN/SDMMC0EXT_CLK/SPI_RXD_M2/USB3PHY_DEBUG3/I2S2_SDI_M1_d, E2 GPIO3_A4/TSP_D0/CIF_D0/SDMMC0EXT_D0/UART1_TX/USB3PHY_DEBUG4_u, E3 GPIO3_A0/TSP_VALID/CIF_VSYNC/SDMMC0EXT_CMD/SPI_CLK_M2/USB3PHY_DEBUG1/I2S2_SCLK_M1_u, F1 GPIO3_A7/TSP_D3/CIF_D3/SDMMC0EXT_D3/UART1_CTSN/USB3PHY_DEBUG7_u, F2 GPIO3_A6/TSP_D2/CIF_D2/SDMMC0EXT_D2/UART1_RX/USB3PHY_DEBUG6_u, F3 GPIO3_B0/TSP_D4/CIF_D4/SPI_CSN0_M2/I2S2_LRCK_TX_M1/USB3PHY_DEBUG8/I2S2_LRCK_RX_M1_d, H6 VCCIO6
part H pins: M2 VDAC_IOUT, N1 CODEC_AOR, N5 CODEC_AVDD_1V8, N6 VDAC_AVDD_1V8, P2 CODEC_AOL, P4 VDAC_IREF, R4 CODEC_AVSS, T4 CODEC_VCM
part I pins: AA2 HDMI_TX0P, AA4 HDMI_TX2N, M4 HDMI_EXTR, M6 HDMI_AVDD_1V0, P6 HDMI_AVDD_1V8, W2 HDMI_TXCLKN, Y1 HDMI_TXCLKP, Y2 HDMI_TX0N, Y3 HDMI_TX1N, Y4 HDMI_TX1P, Y5 HDMI_TX2P
part J pins: AA8 FEPHY_RXN, AA9 FEPHY_TXN, U6 FEPHY_AVDD_1V8, V6 FEPHY_AVDD_1V0, V7 FEPHY_EXTRES, Y8 FEPHY_RXP, Y9 FEPHY_TXP
part K pins: AA6 USB0_DP, AA7 USB1_DP, T5 USB20_AVDD_3V3, T6 USB20_VBUS, U5 USB20_AVDD_1V8, V5 USB20_DVDD_1V0, W6 USB20_EXTR, Y6 USB0_DM, Y7 USB1_DM
part L pins: G5 USB30_EXTR, H2 USB30_TXN, H3 USB30_TXP, J2 USB30_RXP, J3 USB30_RXN, J5 USB30_AVDD_1V8, J6 USB30_AVDD_3V3, J7 USB30_DVDD_1V0, K1 USB30_DP, K2 USB30_DM, K7 USB30_VBUS
part M pins: A2 DDR_DQ7, A3 DDR_DQS0_N, A5 DDR_DQS1_N, A7 DDR_DQ1, A10 DDR_DQ21, A11 DDR_DQ23, A13 DDR_DQS2_N, A15 DDR_DQS3_N, A17 DDR_DQ31, A18 DDR_DQ30, A20 DDR3_CLKN/DDR4_CLKN, B1 DDR_DQ8, B2 DDR_DQ3, B3 DDR_DQS0_P, B5 DDR_DQS1_P, B6 DDR_DQM0, B7 DDR_DQ6, B9 DDR_DQ4, B10 DDR_DQ11, B11 DDR_DQ20, B12 DDR_DQ19, B13 DDR_DQS2_P, B15 DDR_DQS3_P, B17 DDR_DQ22, B18 DDR_DQ27, B19 DDR_DQ26, B20 DDR3_CLKP/DDR4_CLKP, B21 DDR3_RESETn/DDR4_RESETN, C2 DDR_DQ10, C4 DDR_DQ14, C5 DDR_DQ2, C7 DDR_DQ5, C8 DDR_DQ9, C10 DDR_DQ13, C12 DDR_DQ24, C13 DDR_DQ29, C15 DDR_DQ17, C16 DDR_DQ18, C20 DDR3_CSN0/DDR4_ACTn, C21 DDR3_BA0/DDR4_BG0, D4 DDR_DQ12, D5 DDR_DQM1, D7 DDR_DQ0, D9 DDR_DQ15, D10 DDR_DQM3, D12 DDR_DQ28, D13 DDR_DQ25, D15 DDR_DQM2, D16 DDR_DQ16, D19 DDR3_RASn/DDR4_CKE, D20 DDR3_A7/DDR4_A11, D21 DDR3_A5/DDR4_A8, E18 DDR3_ODT0/DDR4_Wen/DDR4_A14, E20 DDR3_A3/DDR4_A6, E21 DDR3_BA2/DDR4_BA0, F10 VDD_DDRIO (power), F11 VDD_DDRIO (power), F12 VDD_DDRIO (power), F13 VDD_DDRIO (power), F18 DDR3_A13/DDR4_A2, F19 DDR3_A9/DDR4_A0, G10 VDD_DDRIO (power), G11 VDD_DDRIO (power), G12 VDD_DDRIO (power), G13 VDD_DDRIO (power), G19 DDR3_A0/DDR4_A10, G20 DDR3_A11/DDR4_A3, G21 DDR3_A14/DDR4_A1, H16 VDD_DDRIO (power), H18 DDR3_A2/DDR4_A4, H19 DDR3_WEn/DDR4_BG1, H20 DDR3_A6/DDR4_A7, H21 DDR3_A4/DDR4_A5, J15 VDD_DDRIO (power), J16 VDD_DDRIO (power), J18 DDR3_CASn/DDR4_A12, J19 DDR3_A15/DDR4_ODT0, J21 DDR3_A12/DDR4_BA1, K15 VDD_DDRIO (power), K16 VDD_DDRIO (power), K18 DDR3_A1/DDR4_A9, K19 DDR3_A8/DDR4_A13, K20 DDR3_BA1/DDR4_CASn/DDR4_A15, K21 DDR3_A10/DDR4_CS0n, L18 DDR3_CSN1/DDR4_CS1N, L19 DDR3_ODT1/DDR4_ODT1, L20 DDR3_CKE/DDR4_RASn/DDR4_A16
part N pins: N9 VDD_LOGIC (power), N10 VDD_LOGIC (power), N11 VDD_LOGIC (power), P9 VDD_LOGIC (power), P10 VDD_LOGIC (power), P11 VDD_LOGIC (power), P13 VDD_CORE (power), P14 VDD_CORE (power), R9 VDD_LOGIC (power), R10 VDD_LOGIC (power), R11 VDD_LOGIC (power), R13 VDD_CORE (power), R14 VDD_CORE (power), T13 VDD_CORE (power), T14 VDD_CORE (power), T15 VDD_CORE (power)
part O pins: A1 VSS (power), A21 VSS (power), B4 VSS (power), B14 VSS (power), B16 VSS (power), C1 VSS (power), C3 VSS (power), C6 VSS (power), C9 VSS (power), C11 VSS (power), C14 VSS (power), C17 VSS (power), C18 VSS (power), C19 VSS (power), D3 VSS (power), D6 VSS (power), D8 VSS (power), D11 VSS (power), D14 VSS (power), D17 VSS (power), D18 VSS (power), E4 VSS (power), E5 VSS (power), E6 VSS (power), E7 VSS (power), E8 VSS (power), E9 VSS (power), E10 VSS (power), E11 VSS (power), E12 VSS (power), E13 VSS (power), E14 VSS (power), E15 VSS (power), E16 VSS (power), E17 VSS (power), E19 VSS (power), F4 VSS (power), F5 VSS (power), F6 VSS (power), F7 VSS (power), F8 VSS (power), F9 VSS (power), F17 VSS (power), F20 VSS (power), G2 VSS (power), G3 VSS (power), G4 VSS (power), G6 VSS (power), G7 VSS (power), G8 VSS (power), G9 VSS (power), G14 VSS (power), G15 VSS (power), G17 VSS (power)
part P pins: G18 VSS (power), H4 VSS (power), H8 VSS (power), H9 VSS (power), H10 VSS (power), H11 VSS (power), H12 VSS (power), H13 VSS (power), H14 VSS (power), H15 VSS (power), H17 VSS (power), J4 VSS (power), J8 VSS (power), J9 VSS (power), J10 VSS (power), J11 VSS (power), J12 VSS (power), J13 VSS (power), J14 VSS (power), J17 VSS (power), J20 VSS (power), K3 VSS (power), K5 VSS (power), K8 VSS (power), K9 VSS (power), K10 VSS (power), K11 VSS (power), K12 VSS (power), K13 VSS (power), K14 VSS (power), K17 VSS (power), L4 VSS (power), L5 VSS (power), L6 VSS (power), L7 VSS (power), L8 VSS (power), L9 VSS (power), L10 VSS (power), L11 VSS (power), L12 VSS (power), L13 VSS (power), L14 VSS (power), L15 VSS (power), L16 VSS (power), L17 VSS (power), L21 VSS (power), M7 VSS (power), M8 VSS (power)
part Q pins: AA1 VSS (power), AA5 VSS (power), AA21 VSS (power), M9 VSS (power), M10 VSS (power), M11 VSS (power), M12 VSS (power), M13 VSS (power), M14 VSS (power), N3 VSS (power), N7 VSS (power), N8 VSS (power), N12 VSS (power), N13 VSS (power), N14 VSS (power), N15 VSS (power), P3 VSS (power), P7 VSS (power), P8 VSS (power), P12 VSS (power), P15 VSS (power), R2 VSS (power), R5 VSS (power), R7 VSS (power), R8 VSS (power), R12 VSS (power), R15 VSS (power), T2 VSS (power), T3 VSS (power), T8 VSS (power), T9 VSS (power), T10 VSS (power), T11 VSS (power), T12 VSS (power), U4 VSS (power), U8 VSS (power), U9 VSS (power), U11 VSS (power), U13 VSS (power), U14 VSS (power), U15 VSS (power), V4 VSS (power), V8 VSS (power), V11 VSS (power), W1 VSS (power), W3 VSS (power), W4 VSS (power), W5 VSS (power), W7 VSS (power), W8 VSS (power), W9 VSS (power)
part A text: OSC; PLL Power; SARADC; OTP/eFUSE
part H text: R/L out; CVBS out
part I text: HDMI2.0 out
part J text: 10/100M Ethernet PHY
part K text: USB2.0
part L text: USB3.0
part M text: DDR3/DDR4
part N text: ARM; GPU/Logic

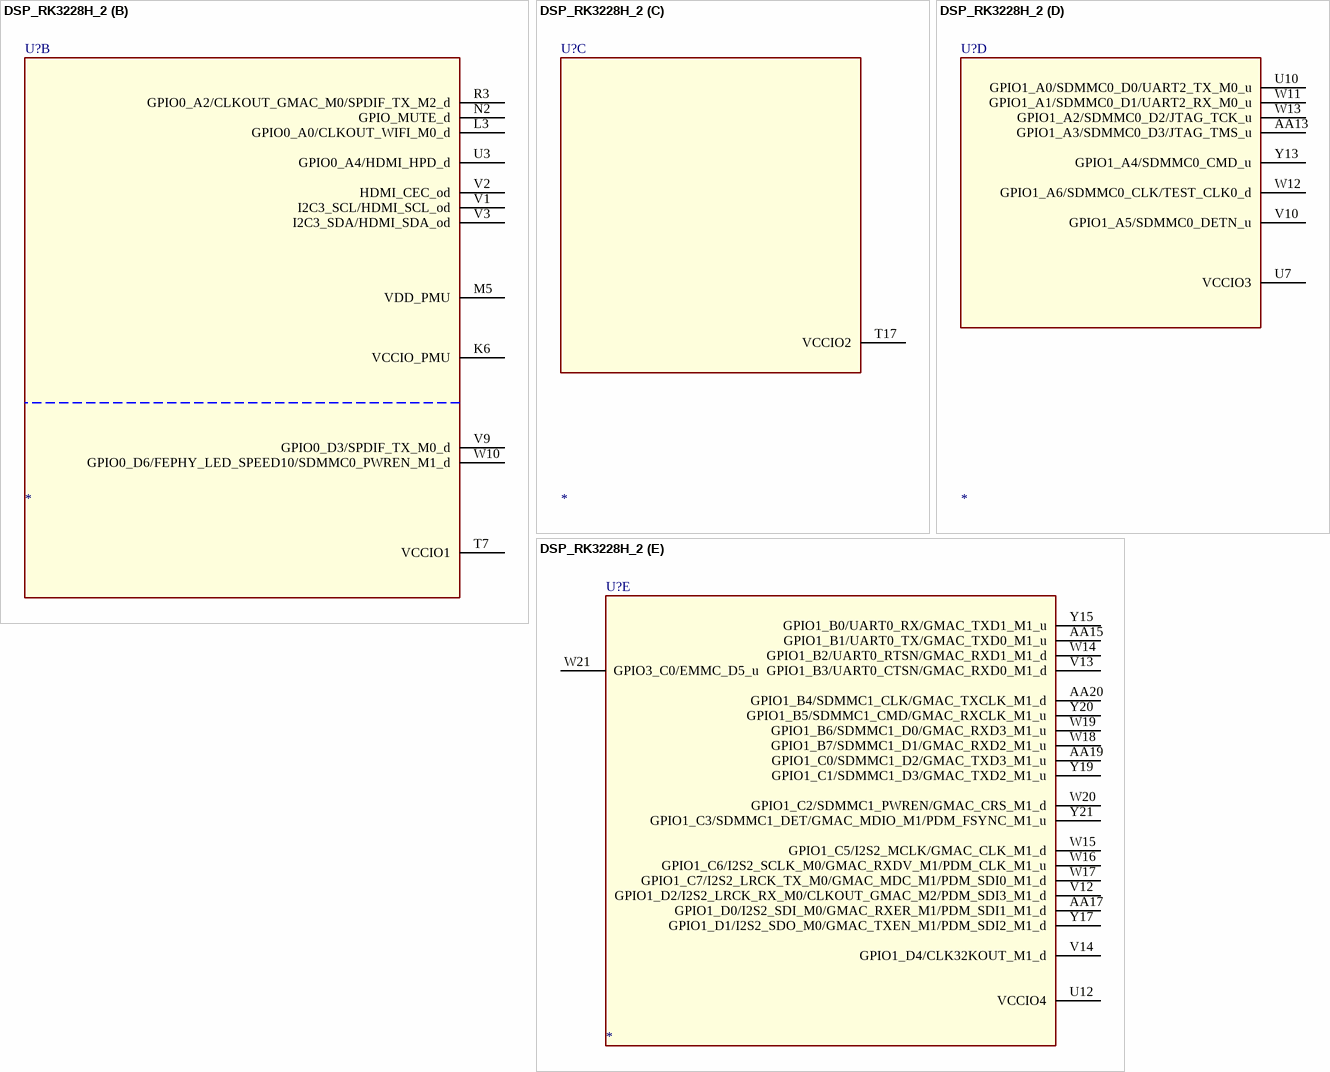
[diagram p7: symbol DSP_RK3228H_2]

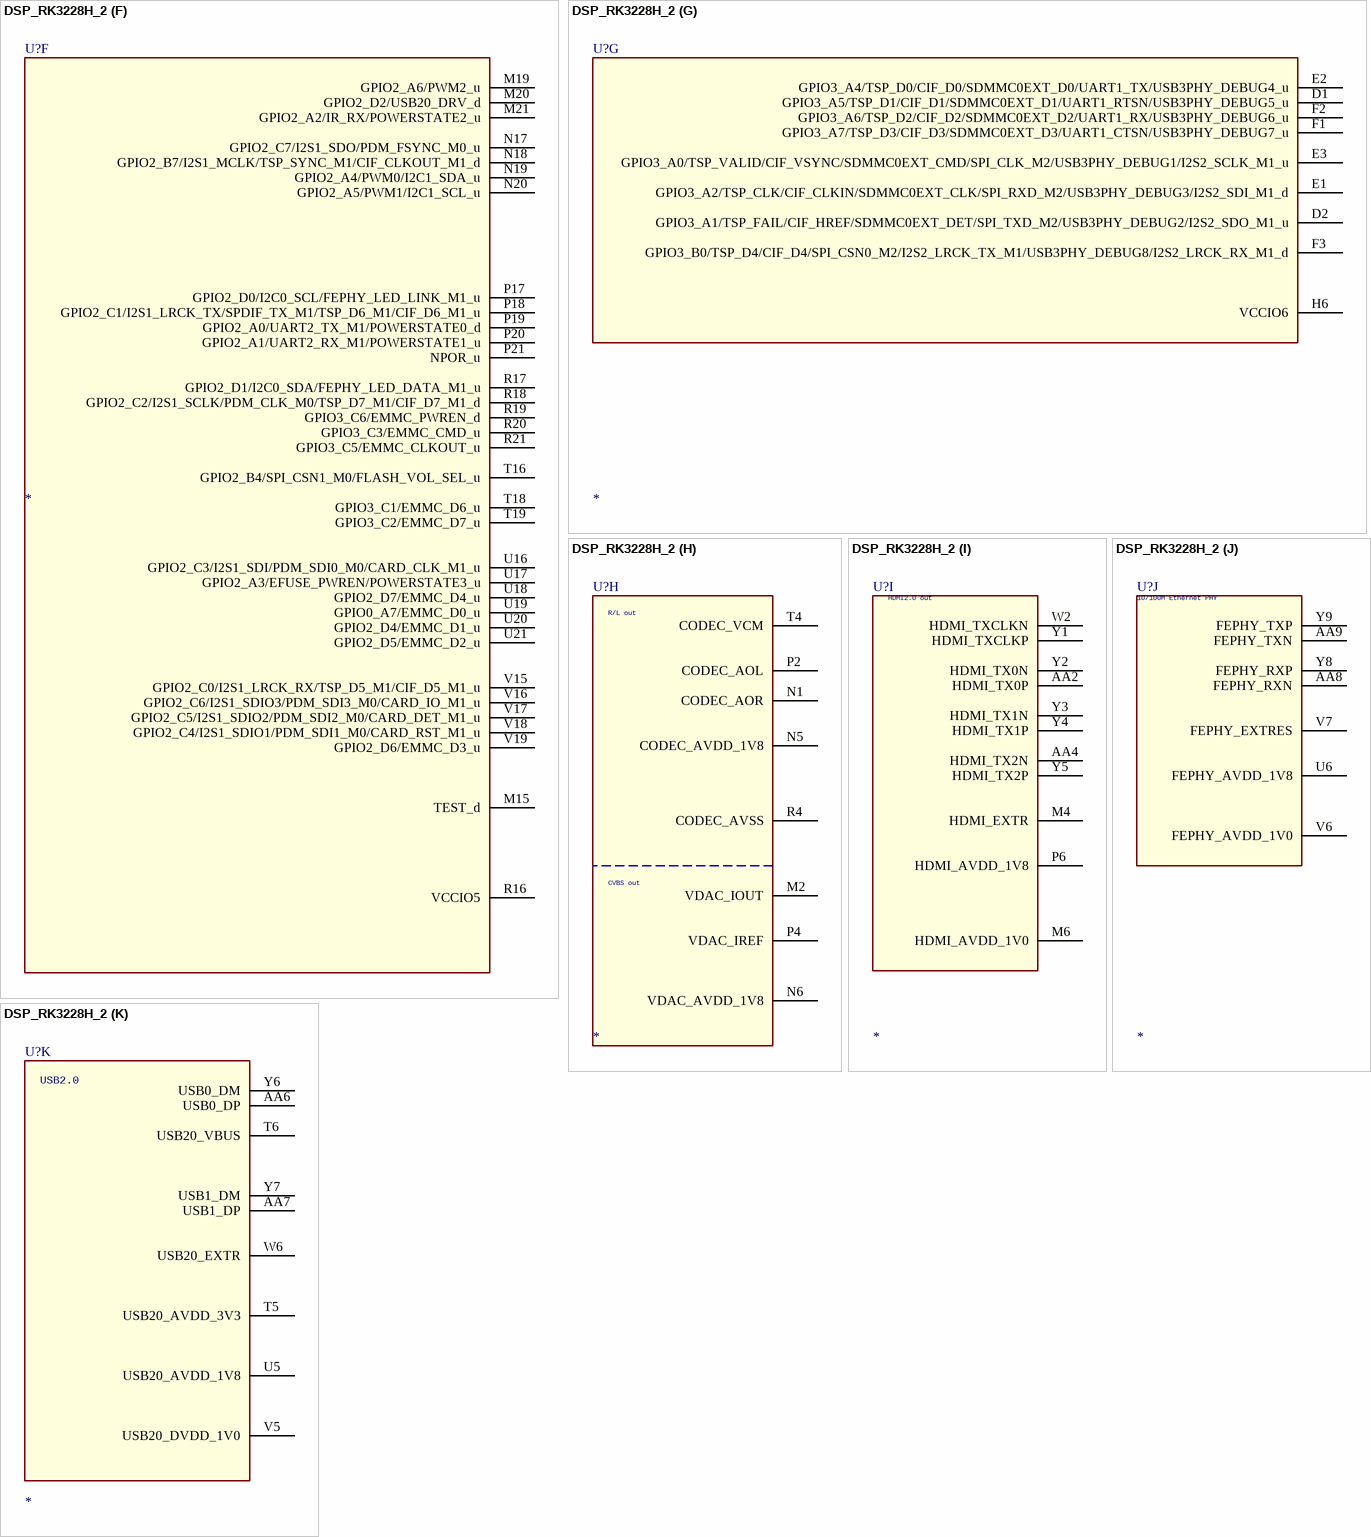
[diagram p8: symbol DSP_RK3228H_2]

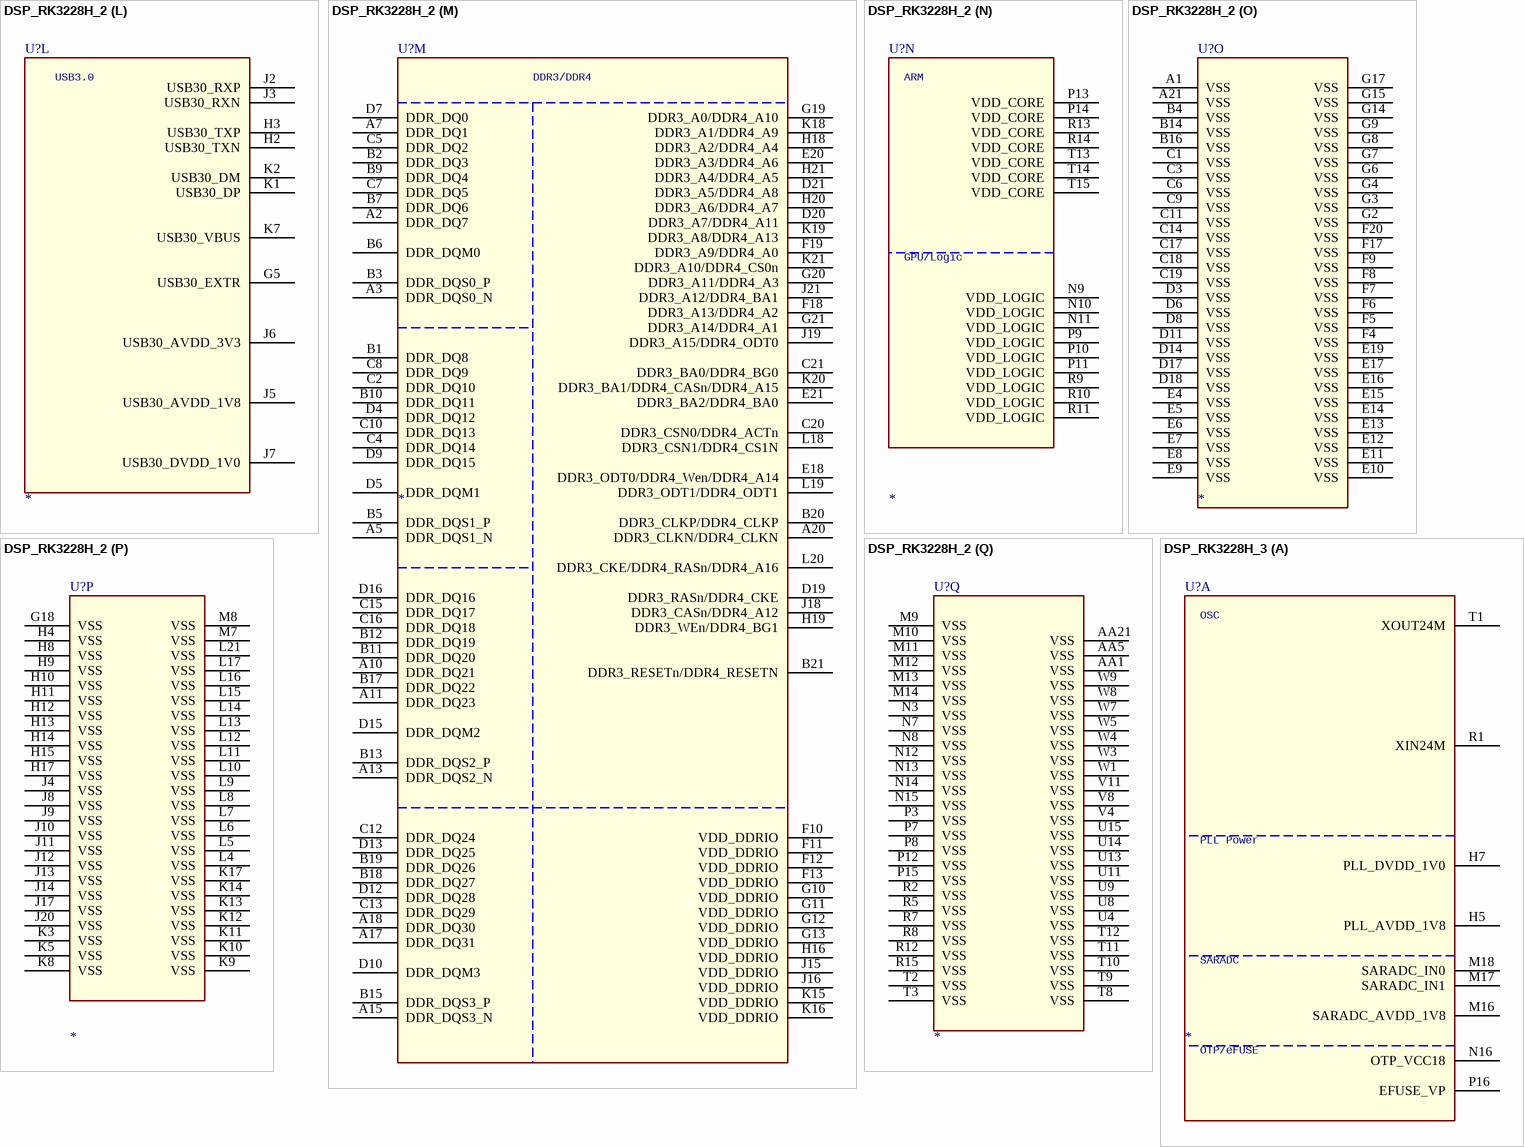
[diagram p9: symbols DSP_RK3228H_2 to DSP_RK3228H_3]

## DSP_RK3228H_2
designator U?
footprint RK3228H_21X21
part A pins: H5 PLL_AVDD_1V8, H7 PLL_DVDD_1V0, M16 SARADC_AVDD_1V8, M17 SARADC_IN1, M18 SARADC_IN0, N16 OTP_VCC18, P16 EFUSE_VP, R1 XIN24M, T1 XOUT24M
part B pins: K6 VCCIO_PMU, L3 GPIO0_A0/CLKOUT_WIFI_M0_d, M5 VDD_PMU, N2 GPIO_MUTE_d, R3 GPIO0_A2/CLKOUT_GMAC_M0/SPDIF_TX_M2_d, T7 VCCIO1, U3 GPIO0_A4/HDMI_HPD_d, V1 I2C3_SCL/HDMI_SCL_od, V2 HDMI_CEC_od, V3 I2C3_SDA/HDMI_SDA_od, V9 GPIO0_D3/SPDIF_TX_M0_d, W10 GPIO0_D6/FEPHY_LED_SPEED10/SDMMC0_PWREN_M1_d
part C pins: T17 VCCIO2
part D pins: AA13 GPIO1_A3/SDMMC0_D3/JTAG_TMS_u, U7 VCCIO3, U10 GPIO1_A0/SDMMC0_D0/UART2_TX_M0_u, V10 GPIO1_A5/SDMMC0_DETN_u, W11 GPIO1_A1/SDMMC0_D1/UART2_RX_M0_u, W12 GPIO1_A6/SDMMC0_CLK/TEST_CLK0_d, W13 GPIO1_A2/SDMMC0_D2/JTAG_TCK_u, Y13 GPIO1_A4/SDMMC0_CMD_u
part E pins: AA15 GPIO1_B1/UART0_TX/GMAC_TXD0_M1_u, AA17 GPIO1_D0/I2S2_SDI_M0/GMAC_RXER_M1/PDM_SDI1_M1_d, AA19 GPIO1_C0/SDMMC1_D2/GMAC_TXD3_M1_u, AA20 GPIO1_B4/SDMMC1_CLK/GMAC_TXCLK_M1_d, U12 VCCIO4, V12 GPIO1_D2/I2S2_LRCK_RX_M0/CLKOUT_GMAC_M2/PDM_SDI3_M1_d, V13 GPIO1_B3/UART0_CTSN/GMAC_RXD0_M1_d, V14 GPIO1_D4/CLK32KOUT_M1_d, W14 GPIO1_B2/UART0_RTSN/GMAC_RXD1_M1_d, W15 GPIO1_C5/I2S2_MCLK/GMAC_CLK_M1_d, W16 GPIO1_C6/I2S2_SCLK_M0/GMAC_RXDV_M1/PDM_CLK_M1_u, W17 GPIO1_C7/I2S2_LRCK_TX_M0/GMAC_MDC_M1/PDM_SDI0_M1_d, W18 GPIO1_B7/SDMMC1_D1/GMAC_RXD2_M1_u, W19 GPIO1_B6/SDMMC1_D0/GMAC_RXD3_M1_u, W20 GPIO1_C2/SDMMC1_PWREN/GMAC_CRS_M1_d, W21 GPIO3_C0/EMMC_D5_u, Y15 GPIO1_B0/UART0_RX/GMAC_TXD1_M1_u, Y17 GPIO1_D1/I2S2_SDO_M0/GMAC_TXEN_M1/PDM_SDI2_M1_d, Y19 GPIO1_C1/SDMMC1_D3/GMAC_TXD2_M1_u, Y20 GPIO1_B5/SDMMC1_CMD/GMAC_RXCLK_M1_u, Y21 GPIO1_C3/SDMMC1_DET/GMAC_MDIO_M1/PDM_FSYNC_M1_u
part F pins: M15 TEST_d, M19 GPIO2_A6/PWM2_u, M20 GPIO2_D2/USB20_DRV_d, M21 GPIO2_A2/IR_RX/POWERSTATE2_u, N17 GPIO2_C7/I2S1_SDO/PDM_FSYNC_M0_u, N18 GPIO2_B7/I2S1_MCLK/TSP_SYNC_M1/CIF_CLKOUT_M1_d, N19 GPIO2_A4/PWM0/I2C1_SDA_u, N20 GPIO2_A5/PWM1/I2C1_SCL_u, P17 GPIO2_D0/I2C0_SCL/FEPHY_LED_LINK_M1_u, P18 GPIO2_C1/I2S1_LRCK_TX/SPDIF_TX_M1/TSP_D6_M1/CIF_D6_M1_u, P19 GPIO2_A0/UART2_TX_M1/POWERSTATE0_d, P20 GPIO2_A1/UART2_RX_M1/POWERSTATE1_u, P21 NPOR_u, R16 VCCIO5, R17 GPIO2_D1/I2C0_SDA/FEPHY_LED_DATA_M1_u, R18 GPIO2_C2/I2S1_SCLK/PDM_CLK_M0/TSP_D7_M1/CIF_D7_M1_d, R19 GPIO3_C6/EMMC_PWREN_d, R20 GPIO3_C3/EMMC_CMD_u, R21 GPIO3_C5/EMMC_CLKOUT_u, T16 GPIO2_B4/SPI_CSN1_M0/FLASH_VOL_SEL_u, T18 GPIO3_C1/EMMC_D6_u, T19 GPIO3_C2/EMMC_D7_u, U16 GPIO2_C3/I2S1_SDI/PDM_SDI0_M0/CARD_CLK_M1_u, U17 GPIO2_A3/EFUSE_PWREN/POWERSTATE3_u, U18 GPIO2_D7/EMMC_D4_u, U19 GPIO0_A7/EMMC_D0_u, U20 GPIO2_D4/EMMC_D1_u, U21 GPIO2_D5/EMMC_D2_u, V15 GPIO2_C0/I2S1_LRCK_RX/TSP_D5_M1/CIF_D5_M1_u, V16 GPIO2_C6/I2S1_SDIO3/PDM_SDI3_M0/CARD_IO_M1_u, V17 GPIO2_C5/I2S1_SDIO2/PDM_SDI2_M0/CARD_DET_M1_u, V18 GPIO2_C4/I2S1_SDIO1/PDM_SDI1_M0/CARD_RST_M1_u, V19 GPIO2_D6/EMMC_D3_u
part G pins: D1 GPIO3_A5/TSP_D1/CIF_D1/SDMMC0EXT_D1/UART1_RTSN/USB3PHY_DEBUG5_u, D2 GPIO3_A1/TSP_FAIL/CIF_HREF/SDMMC0EXT_DET/SPI_TXD_M2/USB3PHY_DEBUG2/I2S2_SDO_M1_u, E1 GPIO3_A2/TSP_CLK/CIF_CLKIN/SDMMC0EXT_CLK/SPI_RXD_M2/USB3PHY_DEBUG3/I2S2_SDI_M1_d, E2 GPIO3_A4/TSP_D0/CIF_D0/SDMMC0EXT_D0/UART1_TX/USB3PHY_DEBUG4_u, E3 GPIO3_A0/TSP_VALID/CIF_VSYNC/SDMMC0EXT_CMD/SPI_CLK_M2/USB3PHY_DEBUG1/I2S2_SCLK_M1_u, F1 GPIO3_A7/TSP_D3/CIF_D3/SDMMC0EXT_D3/UART1_CTSN/USB3PHY_DEBUG7_u, F2 GPIO3_A6/TSP_D2/CIF_D2/SDMMC0EXT_D2/UART1_RX/USB3PHY_DEBUG6_u, F3 GPIO3_B0/TSP_D4/CIF_D4/SPI_CSN0_M2/I2S2_LRCK_TX_M1/USB3PHY_DEBUG8/I2S2_LRCK_RX_M1_d, H6 VCCIO6
part H pins: M2 VDAC_IOUT, N1 CODEC_AOR, N5 CODEC_AVDD_1V8, N6 VDAC_AVDD_1V8, P2 CODEC_AOL, P4 VDAC_IREF, R4 CODEC_AVSS, T4 CODEC_VCM
part I pins: AA2 HDMI_TX0P, AA4 HDMI_TX2N, M4 HDMI_EXTR, M6 HDMI_AVDD_1V0, P6 HDMI_AVDD_1V8, W2 HDMI_TXCLKN, Y1 HDMI_TXCLKP, Y2 HDMI_TX0N, Y3 HDMI_TX1N, Y4 HDMI_TX1P, Y5 HDMI_TX2P
part J pins: AA8 FEPHY_RXN, AA9 FEPHY_TXN, U6 FEPHY_AVDD_1V8, V6 FEPHY_AVDD_1V0, V7 FEPHY_EXTRES, Y8 FEPHY_RXP, Y9 FEPHY_TXP
part K pins: AA6 USB0_DP, AA7 USB1_DP, T5 USB20_AVDD_3V3, T6 USB20_VBUS, U5 USB20_AVDD_1V8, V5 USB20_DVDD_1V0, W6 USB20_EXTR, Y6 USB0_DM, Y7 USB1_DM
part L pins: G5 USB30_EXTR, H2 USB30_TXN, H3 USB30_TXP, J2 USB30_RXP, J3 USB30_RXN, J5 USB30_AVDD_1V8, J6 USB30_AVDD_3V3, J7 USB30_DVDD_1V0, K1 USB30_DP, K2 USB30_DM, K7 USB30_VBUS
part M pins: A2 DDR_DQ7, A3 DDR_DQS0_N, A5 DDR_DQS1_N, A7 DDR_DQ1, A10 DDR_DQ21, A11 DDR_DQ23, A13 DDR_DQS2_N, A15 DDR_DQS3_N, A17 DDR_DQ31, A18 DDR_DQ30, A20 DDR3_CLKN/DDR4_CLKN, B1 DDR_DQ8, B2 DDR_DQ3, B3 DDR_DQS0_P, B5 DDR_DQS1_P, B6 DDR_DQM0, B7 DDR_DQ6, B9 DDR_DQ4, B10 DDR_DQ11, B11 DDR_DQ20, B12 DDR_DQ19, B13 DDR_DQS2_P, B15 DDR_DQS3_P, B17 DDR_DQ22, B18 DDR_DQ27, B19 DDR_DQ26, B20 DDR3_CLKP/DDR4_CLKP, B21 DDR3_RESETn/DDR4_RESETN, C2 DDR_DQ10, C4 DDR_DQ14, C5 DDR_DQ2, C7 DDR_DQ5, C8 DDR_DQ9, C10 DDR_DQ13, C12 DDR_DQ24, C13 DDR_DQ29, C15 DDR_DQ17, C16 DDR_DQ18, C20 DDR3_CSN0/DDR4_ACTn, C21 DDR3_BA0/DDR4_BG0, D4 DDR_DQ12, D5 DDR_DQM1, D7 DDR_DQ0, D9 DDR_DQ15, D10 DDR_DQM3, D12 DDR_DQ28, D13 DDR_DQ25, D15 DDR_DQM2, D16 DDR_DQ16, D19 DDR3_RASn/DDR4_CKE, D20 DDR3_A7/DDR4_A11, D21 DDR3_A5/DDR4_A8, E18 DDR3_ODT0/DDR4_Wen/DDR4_A14, E20 DDR3_A3/DDR4_A6, E21 DDR3_BA2/DDR4_BA0, F10 VDD_DDRIO (power), F11 VDD_DDRIO (power), F12 VDD_DDRIO (power), F13 VDD_DDRIO (power), F18 DDR3_A13/DDR4_A2, F19 DDR3_A9/DDR4_A0, G10 VDD_DDRIO (power), G11 VDD_DDRIO (power), G12 VDD_DDRIO (power), G13 VDD_DDRIO (power), G19 DDR3_A0/DDR4_A10, G20 DDR3_A11/DDR4_A3, G21 DDR3_A14/DDR4_A1, H16 VDD_DDRIO (power), H18 DDR3_A2/DDR4_A4, H19 DDR3_WEn/DDR4_BG1, H20 DDR3_A6/DDR4_A7, H21 DDR3_A4/DDR4_A5, J15 VDD_DDRIO (power), J16 VDD_DDRIO (power), J18 DDR3_CASn/DDR4_A12, J19 DDR3_A15/DDR4_ODT0, J21 DDR3_A12/DDR4_BA1, K15 VDD_DDRIO (power), K16 VDD_DDRIO (power), K18 DDR3_A1/DDR4_A9, K19 DDR3_A8/DDR4_A13, K20 DDR3_BA1/DDR4_CASn/DDR4_A15, K21 DDR3_A10/DDR4_CS0n, L18 DDR3_CSN1/DDR4_CS1N, L19 DDR3_ODT1/DDR4_ODT1, L20 DDR3_CKE/DDR4_RASn/DDR4_A16
part N pins: N9 VDD_LOGIC (power), N10 VDD_LOGIC (power), N11 VDD_LOGIC (power), P9 VDD_LOGIC (power), P10 VDD_LOGIC (power), P11 VDD_LOGIC (power), P13 VDD_CORE (power), P14 VDD_CORE (power), R9 VDD_LOGIC (power), R10 VDD_LOGIC (power), R11 VDD_LOGIC (power), R13 VDD_CORE (power), R14 VDD_CORE (power), T13 VDD_CORE (power), T14 VDD_CORE (power), T15 VDD_CORE (power)
part O pins: A1 VSS (power), A21 VSS (power), B4 VSS (power), B14 VSS (power), B16 VSS (power), C1 VSS (power), C3 VSS (power), C6 VSS (power), C9 VSS (power), C11 VSS (power), C14 VSS (power), C17 VSS (power), C18 VSS (power), C19 VSS (power), D3 VSS (power), D6 VSS (power), D8 VSS (power), D11 VSS (power), D14 VSS (power), D17 VSS (power), D18 VSS (power), E4 VSS (power), E5 VSS (power), E6 VSS (power), E7 VSS (power), E8 VSS (power), E9 VSS (power), E10 VSS (power), E11 VSS (power), E12 VSS (power), E13 VSS (power), E14 VSS (power), E15 VSS (power), E16 VSS (power), E17 VSS (power), E19 VSS (power), F4 VSS (power), F5 VSS (power), F6 VSS (power), F7 VSS (power), F8 VSS (power), F9 VSS (power), F17 VSS (power), F20 VSS (power), G2 VSS (power), G3 VSS (power), G4 VSS (power), G6 VSS (power), G7 VSS (power), G8 VSS (power), G9 VSS (power), G14 VSS (power), G15 VSS (power), G17 VSS (power)
part P pins: G18 VSS (power), H4 VSS (power), H8 VSS (power), H9 VSS (power), H10 VSS (power), H11 VSS (power), H12 VSS (power), H13 VSS (power), H14 VSS (power), H15 VSS (power), H17 VSS (power), J4 VSS (power), J8 VSS (power), J9 VSS (power), J10 VSS (power), J11 VSS (power), J12 VSS (power), J13 VSS (power), J14 VSS (power), J17 VSS (power), J20 VSS (power), K3 VSS (power), K5 VSS (power), K8 VSS (power), K9 VSS (power), K10 VSS (power), K11 VSS (power), K12 VSS (power), K13 VSS (power), K14 VSS (power), K17 VSS (power), L4 VSS (power), L5 VSS (power), L6 VSS (power), L7 VSS (power), L8 VSS (power), L9 VSS (power), L10 VSS (power), L11 VSS (power), L12 VSS (power), L13 VSS (power), L14 VSS (power), L15 VSS (power), L16 VSS (power), L17 VSS (power), L21 VSS (power), M7 VSS (power), M8 VSS (power)
part Q pins: AA1 VSS (power), AA5 VSS (power), AA21 VSS (power), M9 VSS (power), M10 VSS (power), M11 VSS (power), M12 VSS (power), M13 VSS (power), M14 VSS (power), N3 VSS (power), N7 VSS (power), N8 VSS (power), N12 VSS (power), N13 VSS (power), N14 VSS (power), N15 VSS (power), P3 VSS (power), P7 VSS (power), P8 VSS (power), P12 VSS (power), P15 VSS (power), R2 VSS (power), R5 VSS (power), R7 VSS (power), R8 VSS (power), R12 VSS (power), R15 VSS (power), T2 VSS (power), T3 VSS (power), T8 VSS (power), T9 VSS (power), T10 VSS (power), T11 VSS (power), T12 VSS (power), U4 VSS (power), U8 VSS (power), U9 VSS (power), U11 VSS (power), U13 VSS (power), U14 VSS (power), U15 VSS (power), V4 VSS (power), V8 VSS (power), V11 VSS (power), W1 VSS (power), W3 VSS (power), W4 VSS (power), W5 VSS (power), W7 VSS (power), W8 VSS (power), W9 VSS (power)
part A text: OSC; PLL Power; SARADC; OTP/eFUSE
part H text: R/L out; CVBS out
part I text: HDMI2.0 out
part J text: 10/100M Ethernet PHY
part K text: USB2.0
part L text: USB3.0
part M text: DDR3/DDR4
part N text: ARM; GPU/Logic

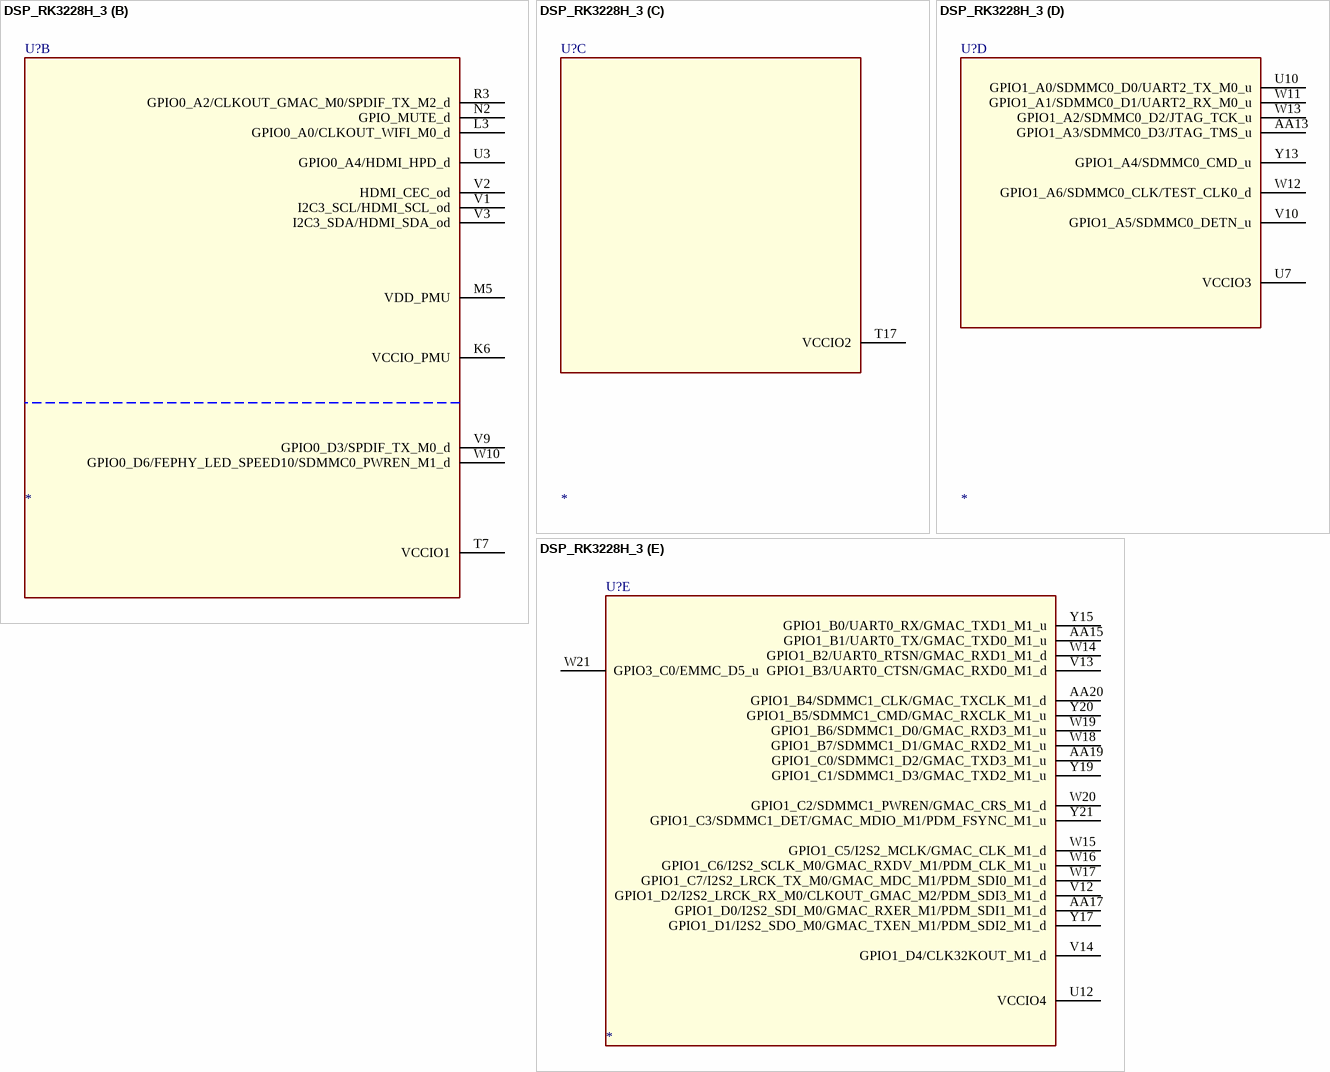
[diagram p10: symbol DSP_RK3228H_3]

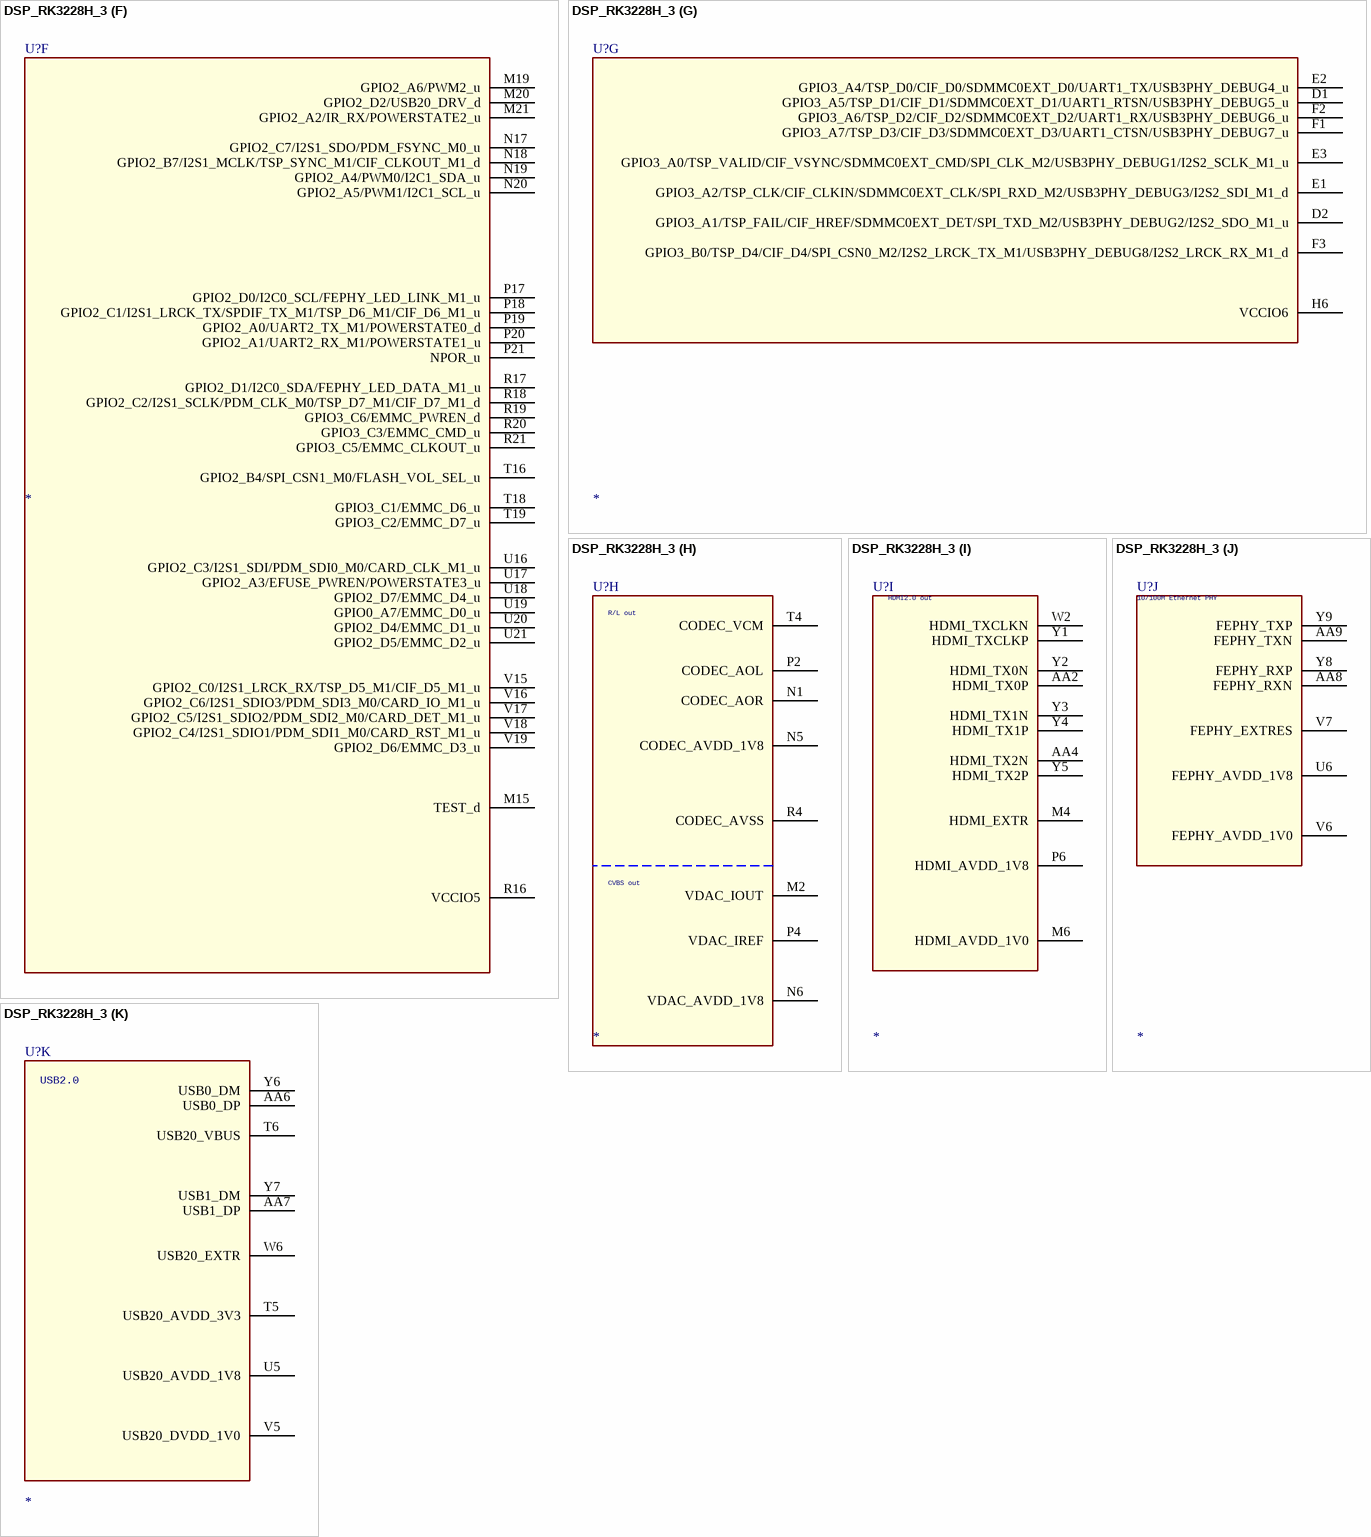
[diagram p11: symbol DSP_RK3228H_3]

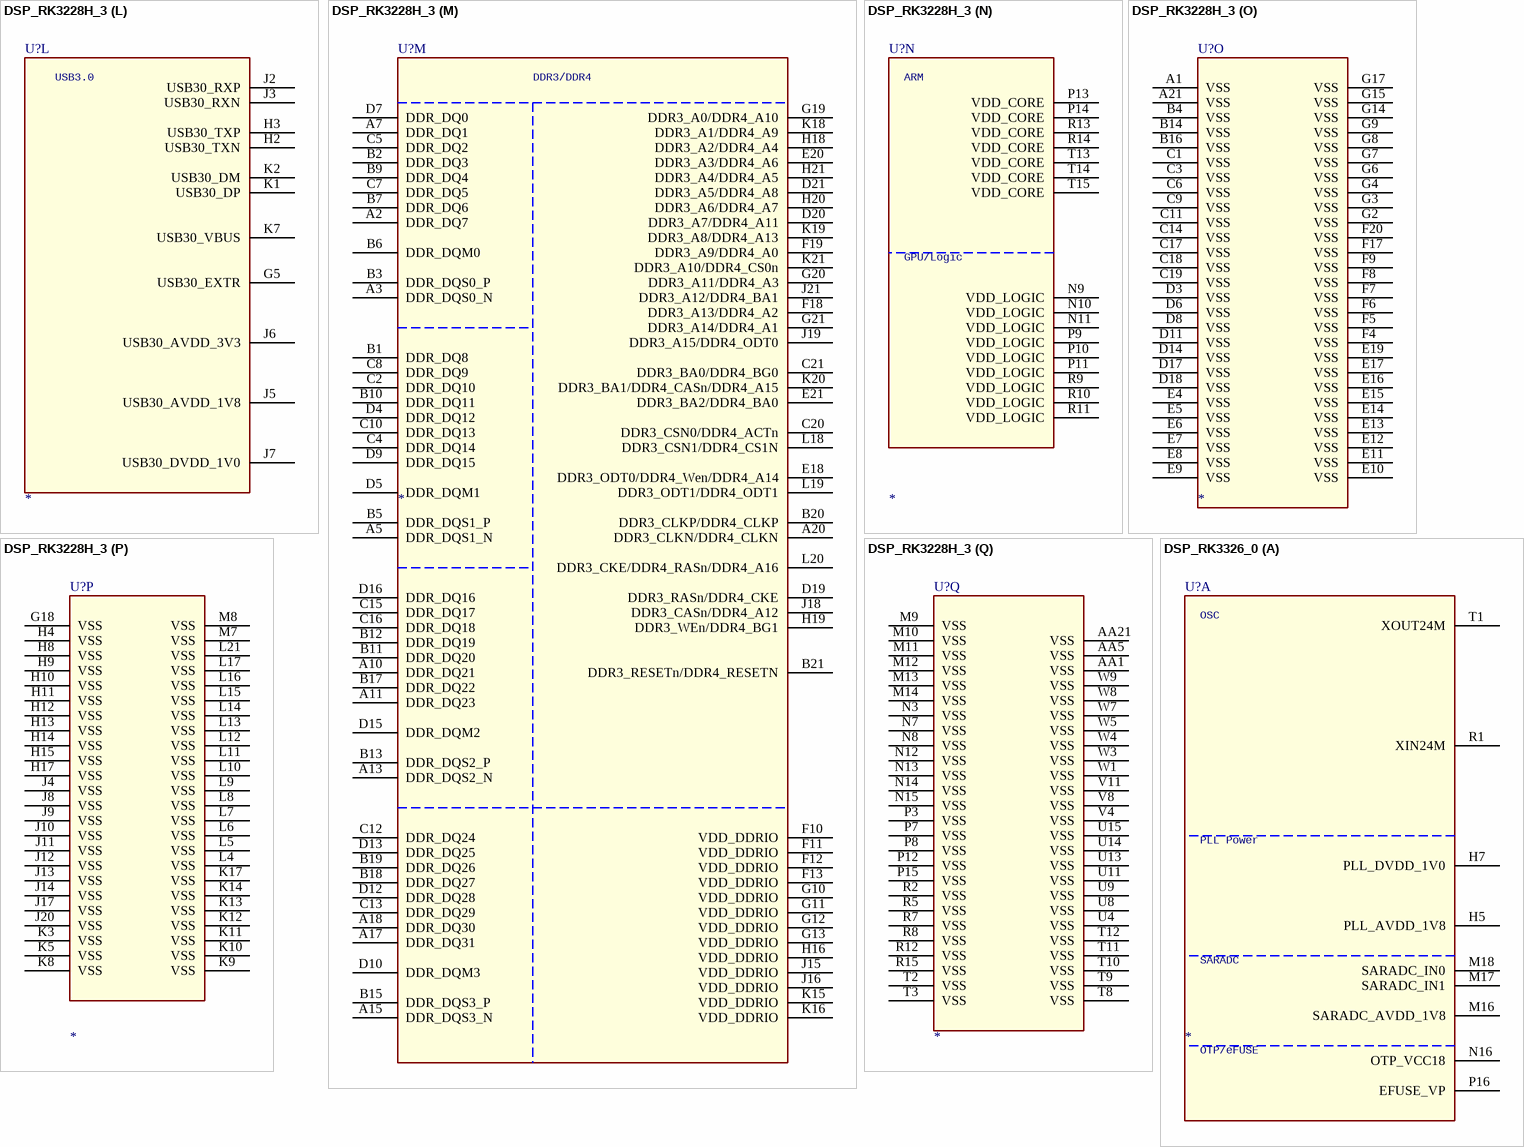
[diagram p12: symbols DSP_RK3228H_3 to DSP_RK3326_0]

## DSP_RK3228H_3
designator U?
footprint RK3228H_21X21
part A pins: H5 PLL_AVDD_1V8, H7 PLL_DVDD_1V0, M16 SARADC_AVDD_1V8, M17 SARADC_IN1, M18 SARADC_IN0, N16 OTP_VCC18, P16 EFUSE_VP, R1 XIN24M, T1 XOUT24M
part B pins: K6 VCCIO_PMU, L3 GPIO0_A0/CLKOUT_WIFI_M0_d, M5 VDD_PMU, N2 GPIO_MUTE_d, R3 GPIO0_A2/CLKOUT_GMAC_M0/SPDIF_TX_M2_d, T7 VCCIO1, U3 GPIO0_A4/HDMI_HPD_d, V1 I2C3_SCL/HDMI_SCL_od, V2 HDMI_CEC_od, V3 I2C3_SDA/HDMI_SDA_od, V9 GPIO0_D3/SPDIF_TX_M0_d, W10 GPIO0_D6/FEPHY_LED_SPEED10/SDMMC0_PWREN_M1_d
part C pins: T17 VCCIO2
part D pins: AA13 GPIO1_A3/SDMMC0_D3/JTAG_TMS_u, U7 VCCIO3, U10 GPIO1_A0/SDMMC0_D0/UART2_TX_M0_u, V10 GPIO1_A5/SDMMC0_DETN_u, W11 GPIO1_A1/SDMMC0_D1/UART2_RX_M0_u, W12 GPIO1_A6/SDMMC0_CLK/TEST_CLK0_d, W13 GPIO1_A2/SDMMC0_D2/JTAG_TCK_u, Y13 GPIO1_A4/SDMMC0_CMD_u
part E pins: AA15 GPIO1_B1/UART0_TX/GMAC_TXD0_M1_u, AA17 GPIO1_D0/I2S2_SDI_M0/GMAC_RXER_M1/PDM_SDI1_M1_d, AA19 GPIO1_C0/SDMMC1_D2/GMAC_TXD3_M1_u, AA20 GPIO1_B4/SDMMC1_CLK/GMAC_TXCLK_M1_d, U12 VCCIO4, V12 GPIO1_D2/I2S2_LRCK_RX_M0/CLKOUT_GMAC_M2/PDM_SDI3_M1_d, V13 GPIO1_B3/UART0_CTSN/GMAC_RXD0_M1_d, V14 GPIO1_D4/CLK32KOUT_M1_d, W14 GPIO1_B2/UART0_RTSN/GMAC_RXD1_M1_d, W15 GPIO1_C5/I2S2_MCLK/GMAC_CLK_M1_d, W16 GPIO1_C6/I2S2_SCLK_M0/GMAC_RXDV_M1/PDM_CLK_M1_u, W17 GPIO1_C7/I2S2_LRCK_TX_M0/GMAC_MDC_M1/PDM_SDI0_M1_d, W18 GPIO1_B7/SDMMC1_D1/GMAC_RXD2_M1_u, W19 GPIO1_B6/SDMMC1_D0/GMAC_RXD3_M1_u, W20 GPIO1_C2/SDMMC1_PWREN/GMAC_CRS_M1_d, W21 GPIO3_C0/EMMC_D5_u, Y15 GPIO1_B0/UART0_RX/GMAC_TXD1_M1_u, Y17 GPIO1_D1/I2S2_SDO_M0/GMAC_TXEN_M1/PDM_SDI2_M1_d, Y19 GPIO1_C1/SDMMC1_D3/GMAC_TXD2_M1_u, Y20 GPIO1_B5/SDMMC1_CMD/GMAC_RXCLK_M1_u, Y21 GPIO1_C3/SDMMC1_DET/GMAC_MDIO_M1/PDM_FSYNC_M1_u
part F pins: M15 TEST_d, M19 GPIO2_A6/PWM2_u, M20 GPIO2_D2/USB20_DRV_d, M21 GPIO2_A2/IR_RX/POWERSTATE2_u, N17 GPIO2_C7/I2S1_SDO/PDM_FSYNC_M0_u, N18 GPIO2_B7/I2S1_MCLK/TSP_SYNC_M1/CIF_CLKOUT_M1_d, N19 GPIO2_A4/PWM0/I2C1_SDA_u, N20 GPIO2_A5/PWM1/I2C1_SCL_u, P17 GPIO2_D0/I2C0_SCL/FEPHY_LED_LINK_M1_u, P18 GPIO2_C1/I2S1_LRCK_TX/SPDIF_TX_M1/TSP_D6_M1/CIF_D6_M1_u, P19 GPIO2_A0/UART2_TX_M1/POWERSTATE0_d, P20 GPIO2_A1/UART2_RX_M1/POWERSTATE1_u, P21 NPOR_u, R16 VCCIO5, R17 GPIO2_D1/I2C0_SDA/FEPHY_LED_DATA_M1_u, R18 GPIO2_C2/I2S1_SCLK/PDM_CLK_M0/TSP_D7_M1/CIF_D7_M1_d, R19 GPIO3_C6/EMMC_PWREN_d, R20 GPIO3_C3/EMMC_CMD_u, R21 GPIO3_C5/EMMC_CLKOUT_u, T16 GPIO2_B4/SPI_CSN1_M0/FLASH_VOL_SEL_u, T18 GPIO3_C1/EMMC_D6_u, T19 GPIO3_C2/EMMC_D7_u, U16 GPIO2_C3/I2S1_SDI/PDM_SDI0_M0/CARD_CLK_M1_u, U17 GPIO2_A3/EFUSE_PWREN/POWERSTATE3_u, U18 GPIO2_D7/EMMC_D4_u, U19 GPIO0_A7/EMMC_D0_u, U20 GPIO2_D4/EMMC_D1_u, U21 GPIO2_D5/EMMC_D2_u, V15 GPIO2_C0/I2S1_LRCK_RX/TSP_D5_M1/CIF_D5_M1_u, V16 GPIO2_C6/I2S1_SDIO3/PDM_SDI3_M0/CARD_IO_M1_u, V17 GPIO2_C5/I2S1_SDIO2/PDM_SDI2_M0/CARD_DET_M1_u, V18 GPIO2_C4/I2S1_SDIO1/PDM_SDI1_M0/CARD_RST_M1_u, V19 GPIO2_D6/EMMC_D3_u
part G pins: D1 GPIO3_A5/TSP_D1/CIF_D1/SDMMC0EXT_D1/UART1_RTSN/USB3PHY_DEBUG5_u, D2 GPIO3_A1/TSP_FAIL/CIF_HREF/SDMMC0EXT_DET/SPI_TXD_M2/USB3PHY_DEBUG2/I2S2_SDO_M1_u, E1 GPIO3_A2/TSP_CLK/CIF_CLKIN/SDMMC0EXT_CLK/SPI_RXD_M2/USB3PHY_DEBUG3/I2S2_SDI_M1_d, E2 GPIO3_A4/TSP_D0/CIF_D0/SDMMC0EXT_D0/UART1_TX/USB3PHY_DEBUG4_u, E3 GPIO3_A0/TSP_VALID/CIF_VSYNC/SDMMC0EXT_CMD/SPI_CLK_M2/USB3PHY_DEBUG1/I2S2_SCLK_M1_u, F1 GPIO3_A7/TSP_D3/CIF_D3/SDMMC0EXT_D3/UART1_CTSN/USB3PHY_DEBUG7_u, F2 GPIO3_A6/TSP_D2/CIF_D2/SDMMC0EXT_D2/UART1_RX/USB3PHY_DEBUG6_u, F3 GPIO3_B0/TSP_D4/CIF_D4/SPI_CSN0_M2/I2S2_LRCK_TX_M1/USB3PHY_DEBUG8/I2S2_LRCK_RX_M1_d, H6 VCCIO6
part H pins: M2 VDAC_IOUT, N1 CODEC_AOR, N5 CODEC_AVDD_1V8, N6 VDAC_AVDD_1V8, P2 CODEC_AOL, P4 VDAC_IREF, R4 CODEC_AVSS, T4 CODEC_VCM
part I pins: AA2 HDMI_TX0P, AA4 HDMI_TX2N, M4 HDMI_EXTR, M6 HDMI_AVDD_1V0, P6 HDMI_AVDD_1V8, W2 HDMI_TXCLKN, Y1 HDMI_TXCLKP, Y2 HDMI_TX0N, Y3 HDMI_TX1N, Y4 HDMI_TX1P, Y5 HDMI_TX2P
part J pins: AA8 FEPHY_RXN, AA9 FEPHY_TXN, U6 FEPHY_AVDD_1V8, V6 FEPHY_AVDD_1V0, V7 FEPHY_EXTRES, Y8 FEPHY_RXP, Y9 FEPHY_TXP
part K pins: AA6 USB0_DP, AA7 USB1_DP, T5 USB20_AVDD_3V3, T6 USB20_VBUS, U5 USB20_AVDD_1V8, V5 USB20_DVDD_1V0, W6 USB20_EXTR, Y6 USB0_DM, Y7 USB1_DM
part L pins: G5 USB30_EXTR, H2 USB30_TXN, H3 USB30_TXP, J2 USB30_RXP, J3 USB30_RXN, J5 USB30_AVDD_1V8, J6 USB30_AVDD_3V3, J7 USB30_DVDD_1V0, K1 USB30_DP, K2 USB30_DM, K7 USB30_VBUS
part M pins: A2 DDR_DQ7, A3 DDR_DQS0_N, A5 DDR_DQS1_N, A7 DDR_DQ1, A10 DDR_DQ21, A11 DDR_DQ23, A13 DDR_DQS2_N, A15 DDR_DQS3_N, A17 DDR_DQ31, A18 DDR_DQ30, A20 DDR3_CLKN/DDR4_CLKN, B1 DDR_DQ8, B2 DDR_DQ3, B3 DDR_DQS0_P, B5 DDR_DQS1_P, B6 DDR_DQM0, B7 DDR_DQ6, B9 DDR_DQ4, B10 DDR_DQ11, B11 DDR_DQ20, B12 DDR_DQ19, B13 DDR_DQS2_P, B15 DDR_DQS3_P, B17 DDR_DQ22, B18 DDR_DQ27, B19 DDR_DQ26, B20 DDR3_CLKP/DDR4_CLKP, B21 DDR3_RESETn/DDR4_RESETN, C2 DDR_DQ10, C4 DDR_DQ14, C5 DDR_DQ2, C7 DDR_DQ5, C8 DDR_DQ9, C10 DDR_DQ13, C12 DDR_DQ24, C13 DDR_DQ29, C15 DDR_DQ17, C16 DDR_DQ18, C20 DDR3_CSN0/DDR4_ACTn, C21 DDR3_BA0/DDR4_BG0, D4 DDR_DQ12, D5 DDR_DQM1, D7 DDR_DQ0, D9 DDR_DQ15, D10 DDR_DQM3, D12 DDR_DQ28, D13 DDR_DQ25, D15 DDR_DQM2, D16 DDR_DQ16, D19 DDR3_RASn/DDR4_CKE, D20 DDR3_A7/DDR4_A11, D21 DDR3_A5/DDR4_A8, E18 DDR3_ODT0/DDR4_Wen/DDR4_A14, E20 DDR3_A3/DDR4_A6, E21 DDR3_BA2/DDR4_BA0, F10 VDD_DDRIO (power), F11 VDD_DDRIO (power), F12 VDD_DDRIO (power), F13 VDD_DDRIO (power), F18 DDR3_A13/DDR4_A2, F19 DDR3_A9/DDR4_A0, G10 VDD_DDRIO (power), G11 VDD_DDRIO (power), G12 VDD_DDRIO (power), G13 VDD_DDRIO (power), G19 DDR3_A0/DDR4_A10, G20 DDR3_A11/DDR4_A3, G21 DDR3_A14/DDR4_A1, H16 VDD_DDRIO (power), H18 DDR3_A2/DDR4_A4, H19 DDR3_WEn/DDR4_BG1, H20 DDR3_A6/DDR4_A7, H21 DDR3_A4/DDR4_A5, J15 VDD_DDRIO (power), J16 VDD_DDRIO (power), J18 DDR3_CASn/DDR4_A12, J19 DDR3_A15/DDR4_ODT0, J21 DDR3_A12/DDR4_BA1, K15 VDD_DDRIO (power), K16 VDD_DDRIO (power), K18 DDR3_A1/DDR4_A9, K19 DDR3_A8/DDR4_A13, K20 DDR3_BA1/DDR4_CASn/DDR4_A15, K21 DDR3_A10/DDR4_CS0n, L18 DDR3_CSN1/DDR4_CS1N, L19 DDR3_ODT1/DDR4_ODT1, L20 DDR3_CKE/DDR4_RASn/DDR4_A16
part N pins: N9 VDD_LOGIC (power), N10 VDD_LOGIC (power), N11 VDD_LOGIC (power), P9 VDD_LOGIC (power), P10 VDD_LOGIC (power), P11 VDD_LOGIC (power), P13 VDD_CORE (power), P14 VDD_CORE (power), R9 VDD_LOGIC (power), R10 VDD_LOGIC (power), R11 VDD_LOGIC (power), R13 VDD_CORE (power), R14 VDD_CORE (power), T13 VDD_CORE (power), T14 VDD_CORE (power), T15 VDD_CORE (power)
part O pins: A1 VSS (power), A21 VSS (power), B4 VSS (power), B14 VSS (power), B16 VSS (power), C1 VSS (power), C3 VSS (power), C6 VSS (power), C9 VSS (power), C11 VSS (power), C14 VSS (power), C17 VSS (power), C18 VSS (power), C19 VSS (power), D3 VSS (power), D6 VSS (power), D8 VSS (power), D11 VSS (power), D14 VSS (power), D17 VSS (power), D18 VSS (power), E4 VSS (power), E5 VSS (power), E6 VSS (power), E7 VSS (power), E8 VSS (power), E9 VSS (power), E10 VSS (power), E11 VSS (power), E12 VSS (power), E13 VSS (power), E14 VSS (power), E15 VSS (power), E16 VSS (power), E17 VSS (power), E19 VSS (power), F4 VSS (power), F5 VSS (power), F6 VSS (power), F7 VSS (power), F8 VSS (power), F9 VSS (power), F17 VSS (power), F20 VSS (power), G2 VSS (power), G3 VSS (power), G4 VSS (power), G6 VSS (power), G7 VSS (power), G8 VSS (power), G9 VSS (power), G14 VSS (power), G15 VSS (power), G17 VSS (power)
part P pins: G18 VSS (power), H4 VSS (power), H8 VSS (power), H9 VSS (power), H10 VSS (power), H11 VSS (power), H12 VSS (power), H13 VSS (power), H14 VSS (power), H15 VSS (power), H17 VSS (power), J4 VSS (power), J8 VSS (power), J9 VSS (power), J10 VSS (power), J11 VSS (power), J12 VSS (power), J13 VSS (power), J14 VSS (power), J17 VSS (power), J20 VSS (power), K3 VSS (power), K5 VSS (power), K8 VSS (power), K9 VSS (power), K10 VSS (power), K11 VSS (power), K12 VSS (power), K13 VSS (power), K14 VSS (power), K17 VSS (power), L4 VSS (power), L5 VSS (power), L6 VSS (power), L7 VSS (power), L8 VSS (power), L9 VSS (power), L10 VSS (power), L11 VSS (power), L12 VSS (power), L13 VSS (power), L14 VSS (power), L15 VSS (power), L16 VSS (power), L17 VSS (power), L21 VSS (power), M7 VSS (power), M8 VSS (power)
part Q pins: AA1 VSS (power), AA5 VSS (power), AA21 VSS (power), M9 VSS (power), M10 VSS (power), M11 VSS (power), M12 VSS (power), M13 VSS (power), M14 VSS (power), N3 VSS (power), N7 VSS (power), N8 VSS (power), N12 VSS (power), N13 VSS (power), N14 VSS (power), N15 VSS (power), P3 VSS (power), P7 VSS (power), P8 VSS (power), P12 VSS (power), P15 VSS (power), R2 VSS (power), R5 VSS (power), R7 VSS (power), R8 VSS (power), R12 VSS (power), R15 VSS (power), T2 VSS (power), T3 VSS (power), T8 VSS (power), T9 VSS (power), T10 VSS (power), T11 VSS (power), T12 VSS (power), U4 VSS (power), U8 VSS (power), U9 VSS (power), U11 VSS (power), U13 VSS (power), U14 VSS (power), U15 VSS (power), V4 VSS (power), V8 VSS (power), V11 VSS (power), W1 VSS (power), W3 VSS (power), W4 VSS (power), W5 VSS (power), W7 VSS (power), W8 VSS (power), W9 VSS (power)
part A text: OSC; PLL Power; SARADC; OTP/eFUSE
part H text: R/L out; CVBS out
part I text: HDMI2.0 out
part J text: 10/100M Ethernet PHY
part K text: USB2.0
part L text: USB3.0
part M text: DDR3/DDR4
part N text: ARM; GPU/Logic

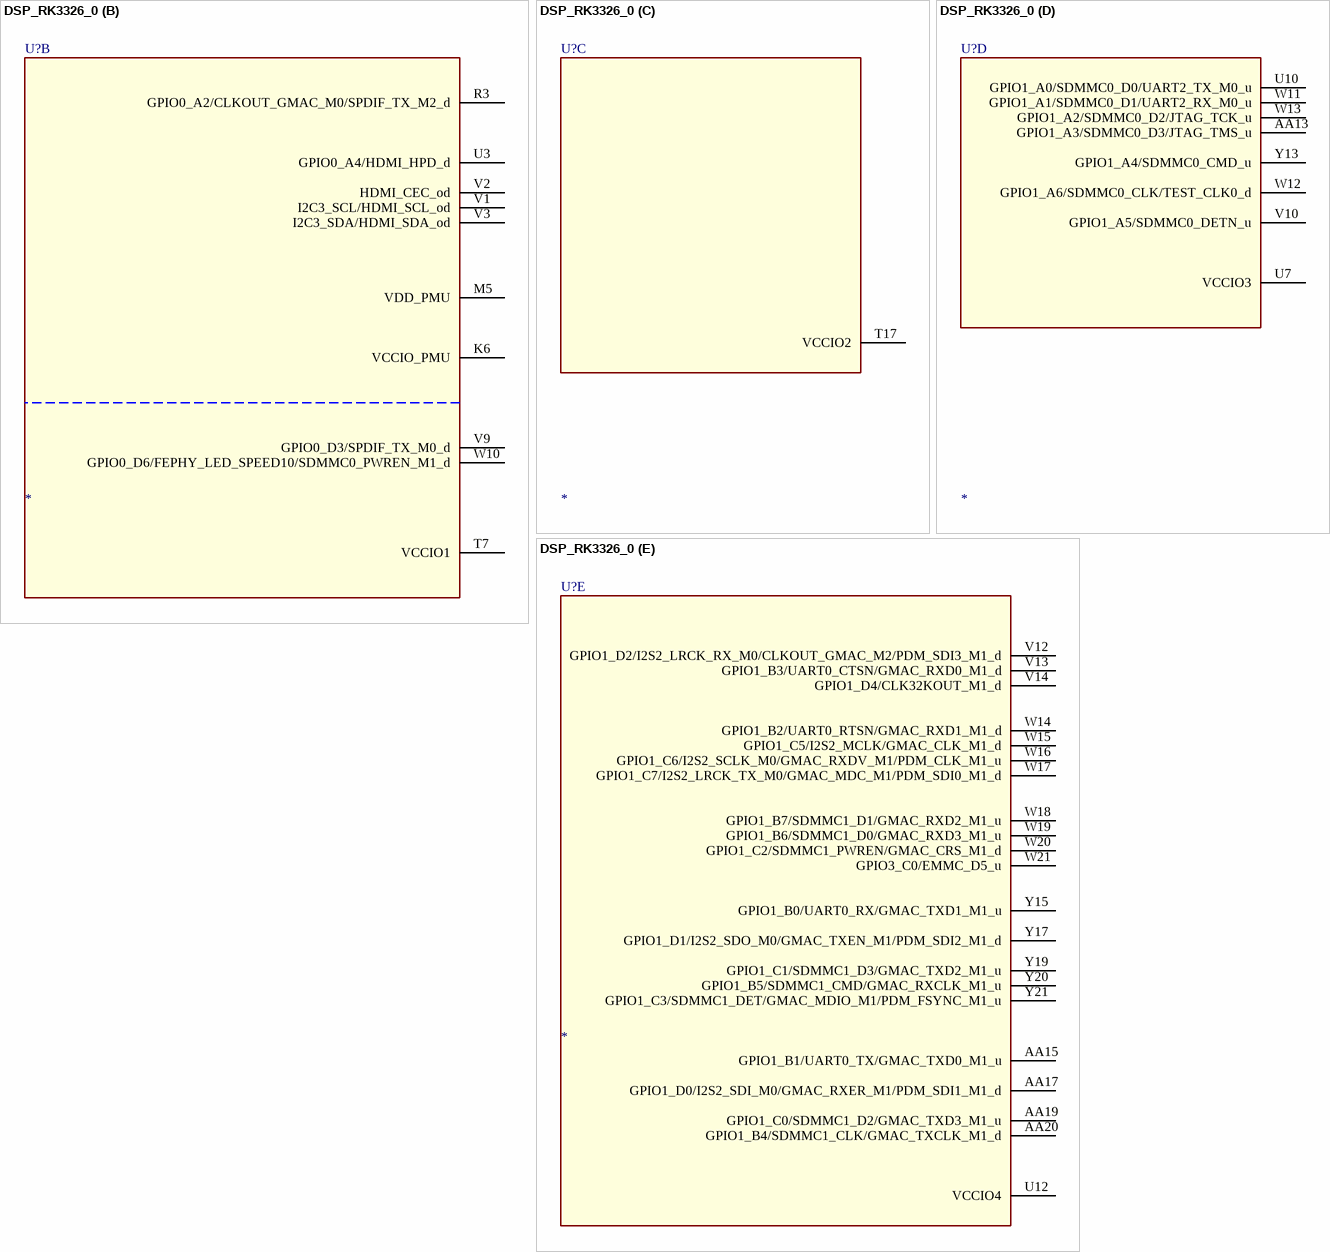
[diagram p13: symbol DSP_RK3326_0]

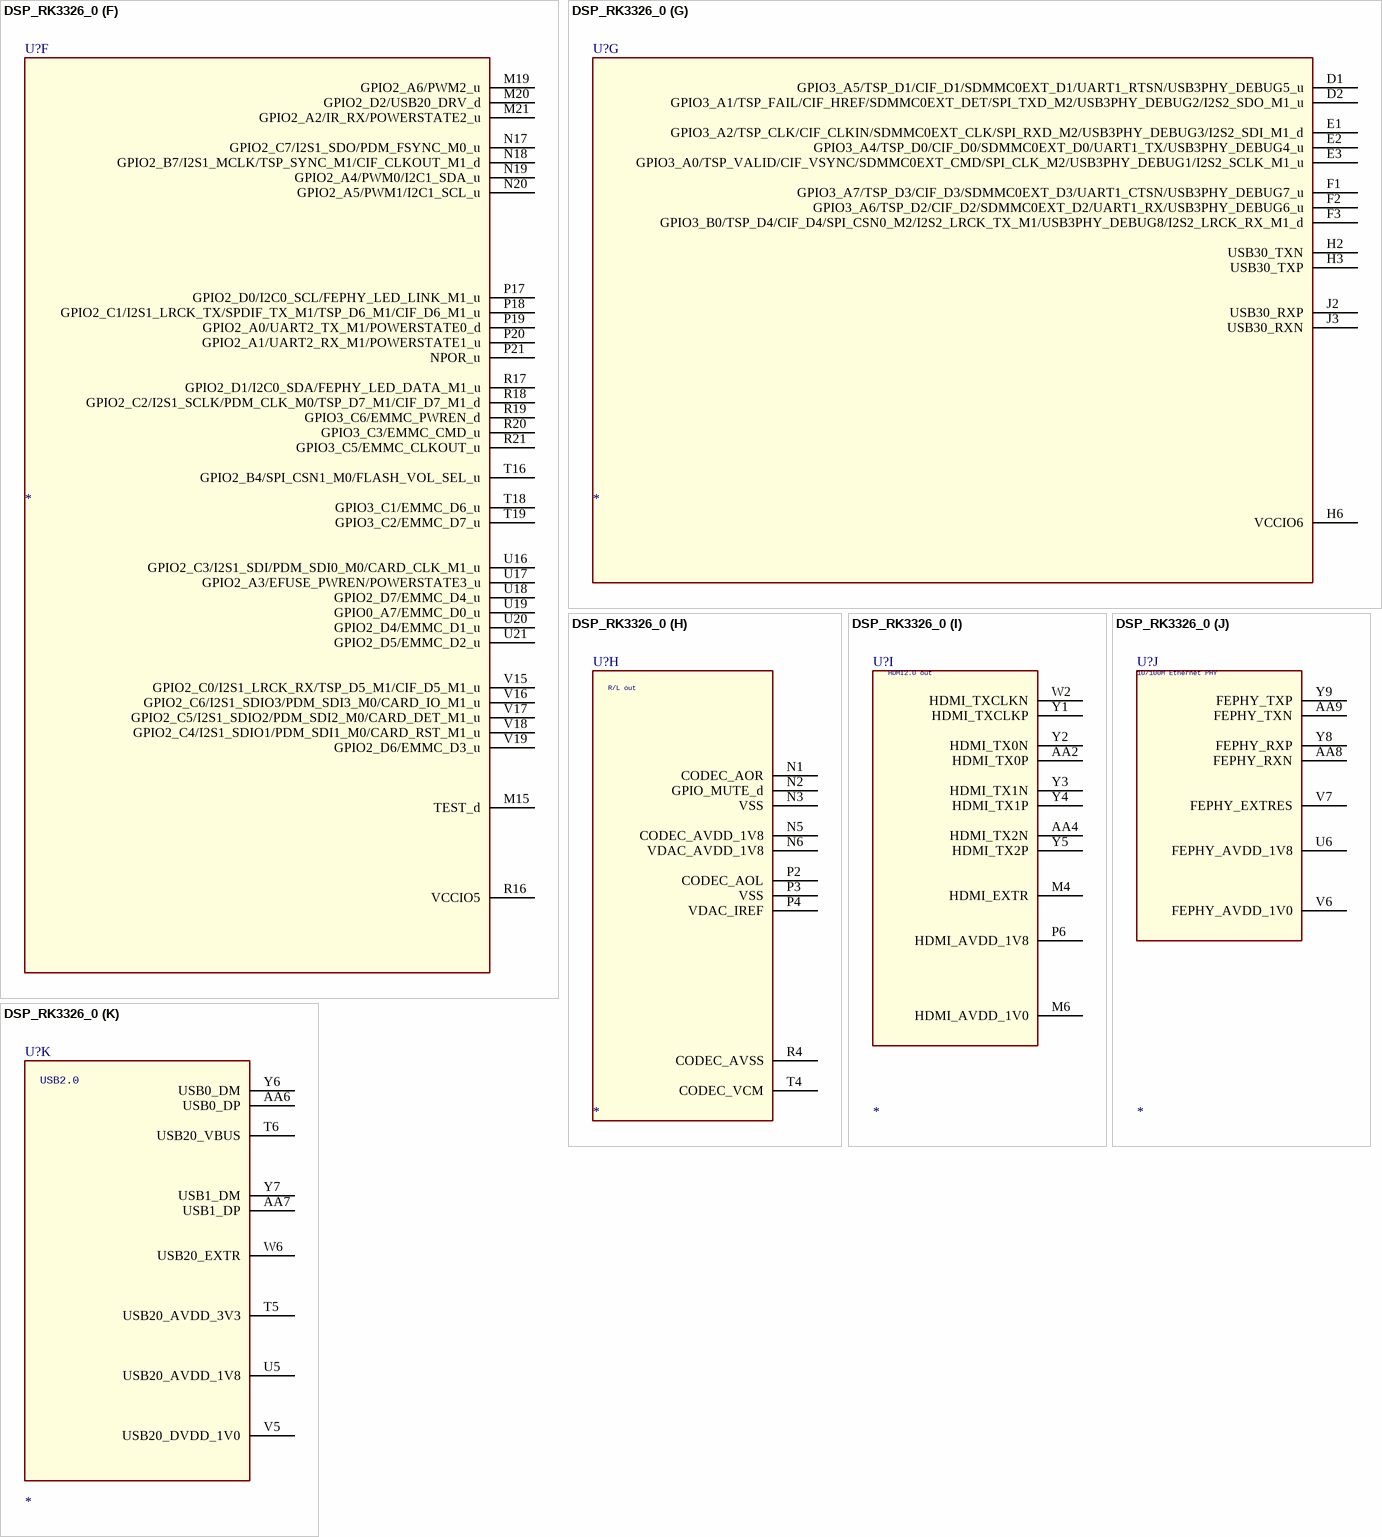
[diagram p14: symbol DSP_RK3326_0]

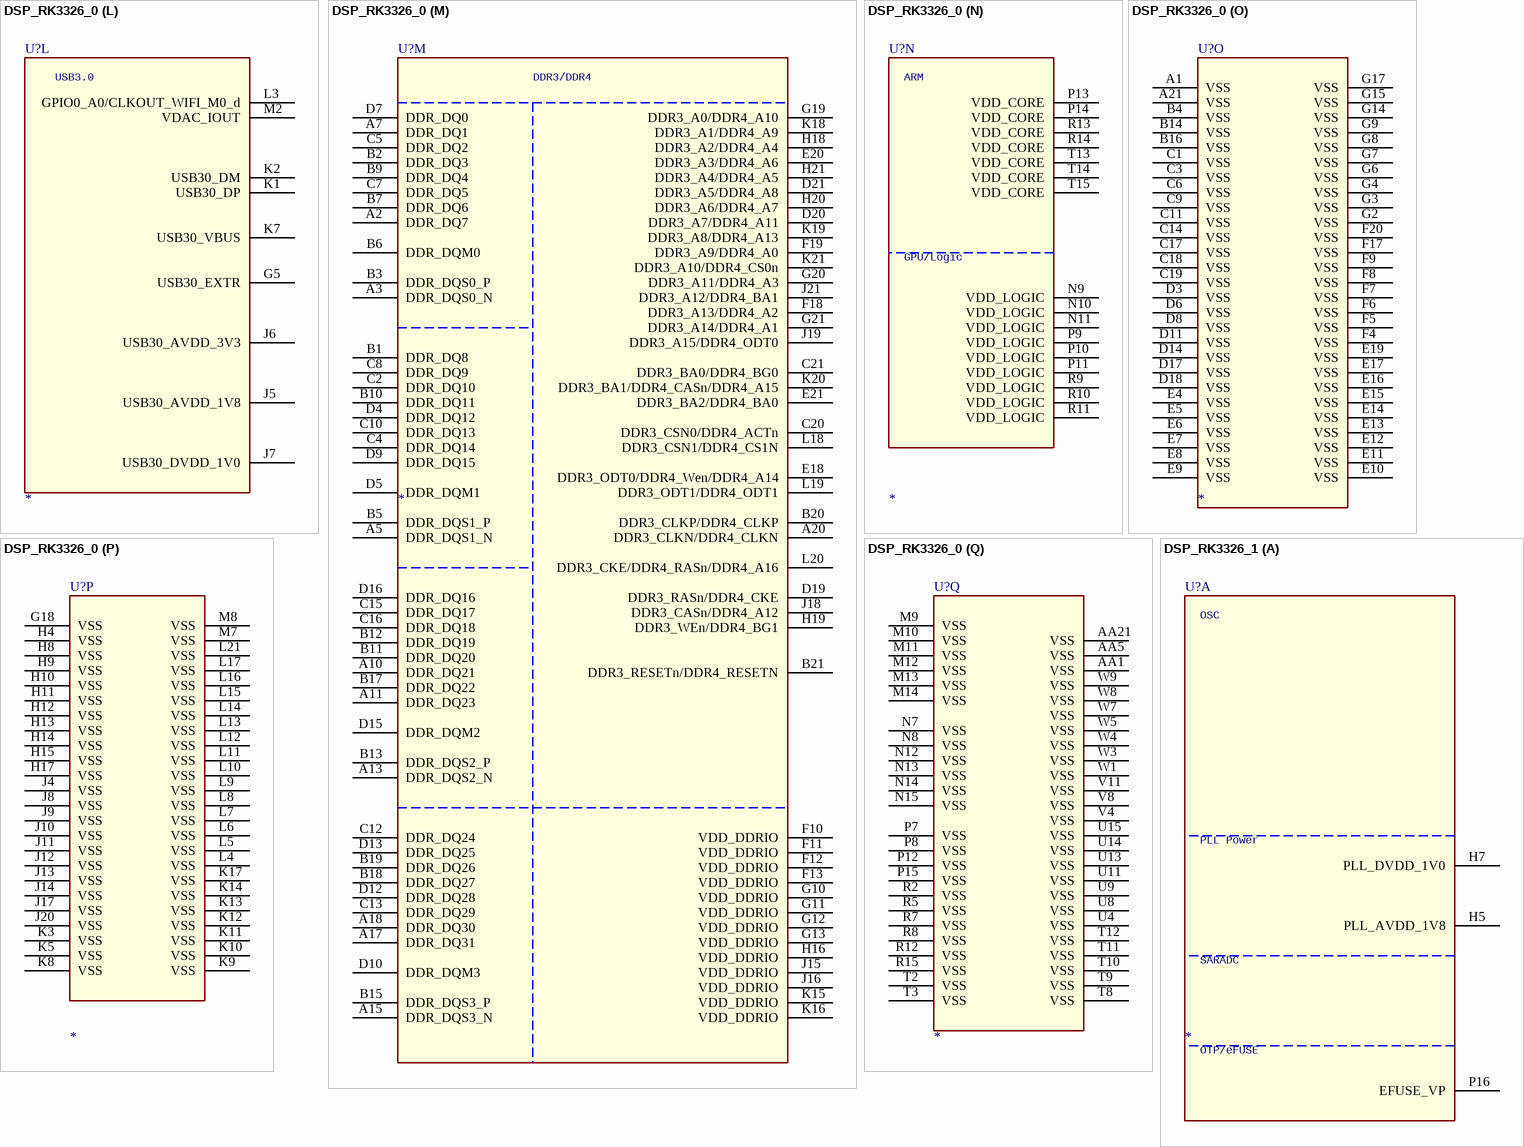
[diagram p15: symbols DSP_RK3326_0 to DSP_RK3326_1]